# Altium integrated library Xilinx XC9500.IntLib: 208 symbols (part 4 of 16)
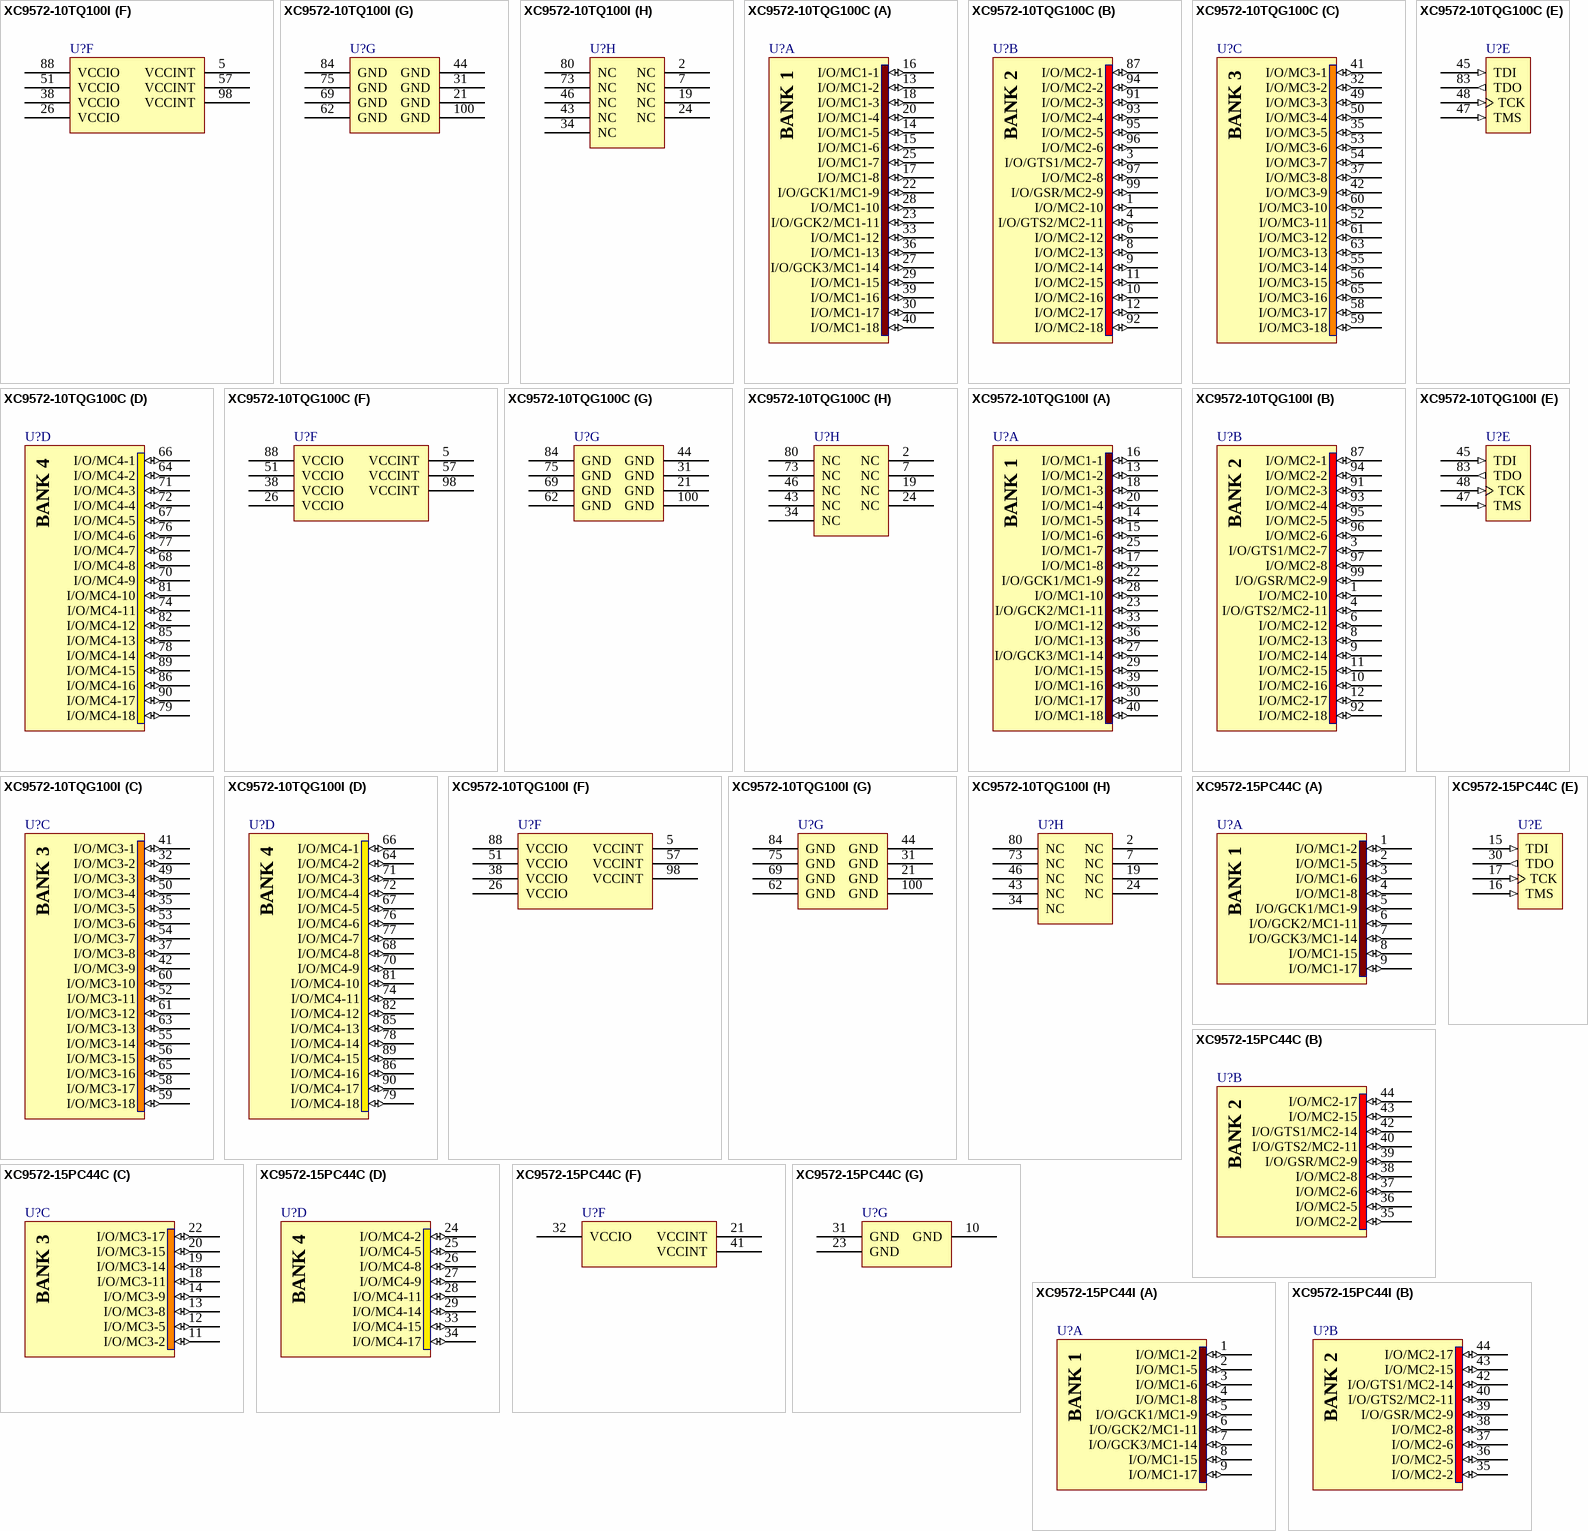
[diagram p76: symbols XC9572-10TQ100I to XC9572-15PC44I]

## XC9572-10TQ100I
designator U?
XC9500 5V, 72 Macrocell CPLD, 72 User I/Os, 100-Pin TQFP, Industrial Grade; Published: 8-Jun-2000; LatestRevisionDate: 18-Nov-2009; LatestRevisionNote: Updated to family datasheet version 5.5 Jun-2007.; DatasheetVersion: ver4.3, Apr-2006; PackageVersion: ver1.2, Jun-2004; PackageReference: TQ100; Publisher: Altium Limited; PackageDescription: 100-Pin Thin Quad Flat Pack (TQ100); Supplier 1: Digi-Key; Supplier Part Number 1: XC9572-10TQ100I-ND; Supplier 2: Newark; Supplier Part Number 2: 39M5807; ComponentLink1Description: XC9572 Datasheet; ComponentLink1URL: http://www.xilinx.com/support/documentation/data_sheets/ds065.pdf; ComponentLink2Description: TQ100 Package Drawing; ComponentLink2URL: http://www.xilinx.com/support/documentation/package_specs/tq100.pdf; ComponentLink3Description: XC9500 Documents; ComponentLink3URL: http://www.xilinx.com/support/documentation/xc9500.htm; ComponentLink4Description: Xilinx.com Home; ComponentLink4URL: http://www.xilinx.com
footprint TQ100_N (Thin QFP, 100-Leads, Body 14x14mm, Pitch 0.5mm, IPC Medium Density)
footprint TQ100_L (Thin QFP, 100-Leads, Body 14x14mm, Pitch 0.5mm, IPC High Density)
footprint TQ100_M (Thin QFP, 100-Leads, Body 14x14mm, Pitch 0.5mm, IPC Low Density)
signal-integrity model XC9572_TQ100 (XC9500)
part A pins: 13 I/O/MC1-2 (io), 14 I/O/MC1-5 (io), 15 I/O/MC1-6 (io), 16 I/O/MC1-1 (io), 17 I/O/MC1-8 (io), 18 I/O/MC1-3 (io), 20 I/O/MC1-4 (io), 22 I/O/GCK1/MC1-9 (io), 23 I/O/GCK2/MC1-11 (io), 25 I/O/MC1-7 (io), 27 I/O/GCK3/MC1-14 (io), 28 I/O/MC1-10 (io), 29 I/O/MC1-15 (io), 30 I/O/MC1-17 (io), 33 I/O/MC1-12 (io), 36 I/O/MC1-13 (io), 39 I/O/MC1-16 (io), 40 I/O/MC1-18 (io)
part B pins: 1 I/O/MC2-10 (io), 3 I/O/GTS1/MC2-7 (io), 4 I/O/GTS2/MC2-11 (io), 6 I/O/MC2-12 (io), 8 I/O/MC2-13 (io), 9 I/O/MC2-14 (io), 10 I/O/MC2-16 (io), 11 I/O/MC2-15 (io), 12 I/O/MC2-17 (io), 87 I/O/MC2-1 (io), 91 I/O/MC2-3 (io), 92 I/O/MC2-18 (io), 93 I/O/MC2-4 (io), 94 I/O/MC2-2 (io), 95 I/O/MC2-5 (io), 96 I/O/MC2-6 (io), 97 I/O/MC2-8 (io), 99 I/O/GSR/MC2-9 (io)
part C pins: 32 I/O/MC3-2 (io), 35 I/O/MC3-5 (io), 37 I/O/MC3-8 (io), 41 I/O/MC3-1 (io), 42 I/O/MC3-9 (io), 49 I/O/MC3-3 (io), 50 I/O/MC3-4 (io), 52 I/O/MC3-11 (io), 53 I/O/MC3-6 (io), 54 I/O/MC3-7 (io), 55 I/O/MC3-14 (io), 56 I/O/MC3-15 (io), 58 I/O/MC3-17 (io), 59 I/O/MC3-18 (io), 60 I/O/MC3-10 (io), 61 I/O/MC3-12 (io), 63 I/O/MC3-13 (io), 65 I/O/MC3-16 (io)
part D pins: 64 I/O/MC4-2 (io), 66 I/O/MC4-1 (io), 67 I/O/MC4-5 (io), 68 I/O/MC4-8 (io), 70 I/O/MC4-9 (io), 71 I/O/MC4-3 (io), 72 I/O/MC4-4 (io), 74 I/O/MC4-11 (io), 76 I/O/MC4-6 (io), 77 I/O/MC4-7 (io), 78 I/O/MC4-14 (io), 79 I/O/MC4-18 (io), 81 I/O/MC4-10 (io), 82 I/O/MC4-12 (io), 85 I/O/MC4-13 (io), 86 I/O/MC4-16 (io), 89 I/O/MC4-15 (io), 90 I/O/MC4-17 (io)
part E pins: 45 TDI (in), 47 TMS (in), 48 TCK (in), 83 TDO (out)
part F pins: 5 VCCINT (power), 26 VCCIO (power), 38 VCCIO (power), 51 VCCIO (power), 57 VCCINT (power), 88 VCCIO (power), 98 VCCINT (power)
part G pins: 21 GND (power), 31 GND (power), 44 GND (power), 62 GND (power), 69 GND (power), 75 GND (power), 84 GND (power), 100 GND (power)
part H pins: 2 NC, 7 NC, 19 NC, 24 NC, 34 NC, 43 NC, 46 NC, 73 NC, 80 NC
part A text: BANK 1
part B text: BANK 2
part C text: BANK 3
part D text: BANK 4

## XC9572-10TQG100C
designator U?
XC9500 5V, 72 Macrocell CPLD, 72 User I/Os, 100-Pin TQFP, Commercial Grade, Pb-Free; Published: 8-Sep-2006; LatestRevisionDate: 18-Nov-2009; LatestRevisionNote: Updated to family datasheet version 5.5 Jun-2007.; DatasheetVersion: ver4.3, Apr-2006; PackageVersion: ver1.2, Jun-2004; PackageReference: TQG100; Publisher: Altium Limited; PackageDescription: 100-Pin Thin Quad Flat Pack (TQG100) - Pb-Free; Supplier 1: Digi-Key; Supplier Part Number 1: 122-1442-ND; ComponentLink1Description: XC9572 Datasheet; ComponentLink1URL: http://www.xilinx.com/support/documentation/data_sheets/ds065.pdf; ComponentLink2Description: TQG100 Package Drawing; ComponentLink2URL: http://www.xilinx.com/support/documentation/package_specs/tq100.pdf; ComponentLink3Description: XC9500 Documents; ComponentLink3URL: http://www.xilinx.com/support/documentation/xc9500.htm; ComponentLink4Description: Xilinx.com Home; ComponentLink4URL: http://www.xilinx.com
footprint TQG100_N (Thin QFP, 100-Leads, Body 14x14mm, Pitch 0.5mm, IPC Medium Density)
footprint TQG100_L (Thin QFP, 100-Leads, Body 14x14mm, Pitch 0.5mm, IPC High Density)
footprint TQG100_M (Thin QFP, 100-Leads, Body 14x14mm, Pitch 0.5mm, IPC Low Density)
signal-integrity model XC9572_TQG100 (XC9500)
part A pins: 13 I/O/MC1-2 (io), 14 I/O/MC1-5 (io), 15 I/O/MC1-6 (io), 16 I/O/MC1-1 (io), 17 I/O/MC1-8 (io), 18 I/O/MC1-3 (io), 20 I/O/MC1-4 (io), 22 I/O/GCK1/MC1-9 (io), 23 I/O/GCK2/MC1-11 (io), 25 I/O/MC1-7 (io), 27 I/O/GCK3/MC1-14 (io), 28 I/O/MC1-10 (io), 29 I/O/MC1-15 (io), 30 I/O/MC1-17 (io), 33 I/O/MC1-12 (io), 36 I/O/MC1-13 (io), 39 I/O/MC1-16 (io), 40 I/O/MC1-18 (io)
part B pins: 1 I/O/MC2-10 (io), 3 I/O/GTS1/MC2-7 (io), 4 I/O/GTS2/MC2-11 (io), 6 I/O/MC2-12 (io), 8 I/O/MC2-13 (io), 9 I/O/MC2-14 (io), 10 I/O/MC2-16 (io), 11 I/O/MC2-15 (io), 12 I/O/MC2-17 (io), 87 I/O/MC2-1 (io), 91 I/O/MC2-3 (io), 92 I/O/MC2-18 (io), 93 I/O/MC2-4 (io), 94 I/O/MC2-2 (io), 95 I/O/MC2-5 (io), 96 I/O/MC2-6 (io), 97 I/O/MC2-8 (io), 99 I/O/GSR/MC2-9 (io)
part C pins: 32 I/O/MC3-2 (io), 35 I/O/MC3-5 (io), 37 I/O/MC3-8 (io), 41 I/O/MC3-1 (io), 42 I/O/MC3-9 (io), 49 I/O/MC3-3 (io), 50 I/O/MC3-4 (io), 52 I/O/MC3-11 (io), 53 I/O/MC3-6 (io), 54 I/O/MC3-7 (io), 55 I/O/MC3-14 (io), 56 I/O/MC3-15 (io), 58 I/O/MC3-17 (io), 59 I/O/MC3-18 (io), 60 I/O/MC3-10 (io), 61 I/O/MC3-12 (io), 63 I/O/MC3-13 (io), 65 I/O/MC3-16 (io)
part D pins: 64 I/O/MC4-2 (io), 66 I/O/MC4-1 (io), 67 I/O/MC4-5 (io), 68 I/O/MC4-8 (io), 70 I/O/MC4-9 (io), 71 I/O/MC4-3 (io), 72 I/O/MC4-4 (io), 74 I/O/MC4-11 (io), 76 I/O/MC4-6 (io), 77 I/O/MC4-7 (io), 78 I/O/MC4-14 (io), 79 I/O/MC4-18 (io), 81 I/O/MC4-10 (io), 82 I/O/MC4-12 (io), 85 I/O/MC4-13 (io), 86 I/O/MC4-16 (io), 89 I/O/MC4-15 (io), 90 I/O/MC4-17 (io)
part E pins: 45 TDI (in), 47 TMS (in), 48 TCK (in), 83 TDO (out)
part F pins: 5 VCCINT (power), 26 VCCIO (power), 38 VCCIO (power), 51 VCCIO (power), 57 VCCINT (power), 88 VCCIO (power), 98 VCCINT (power)
part G pins: 21 GND (power), 31 GND (power), 44 GND (power), 62 GND (power), 69 GND (power), 75 GND (power), 84 GND (power), 100 GND (power)
part H pins: 2 NC, 7 NC, 19 NC, 24 NC, 34 NC, 43 NC, 46 NC, 73 NC, 80 NC
part A text: BANK 1
part B text: BANK 2
part C text: BANK 3
part D text: BANK 4

## XC9572-10TQG100I
designator U?
XC9500 5V, 72 Macrocell CPLD, 72 User I/Os, 100-Pin TQFP, Industrial Grade, Pb-Free; Published: 8-Sep-2006; LatestRevisionDate: 18-Nov-2009; LatestRevisionNote: Updated to family datasheet version 5.5 Jun-2007.; DatasheetVersion: ver4.3, Apr-2006; PackageVersion: ver1.2, Jun-2004; PackageReference: TQG100; Publisher: Altium Limited; PackageDescription: 100-Pin Thin Quad Flat Pack (TQG100) - Pb-Free; ComponentLink1Description: XC9572 Datasheet; ComponentLink1URL: http://www.xilinx.com/support/documentation/data_sheets/ds065.pdf; ComponentLink2Description: TQG100 Package Drawing; ComponentLink2URL: http://www.xilinx.com/support/documentation/package_specs/tq100.pdf; ComponentLink3Description: XC9500 Documents; ComponentLink3URL: http://www.xilinx.com/support/documentation/xc9500.htm; ComponentLink4Description: Xilinx.com Home; ComponentLink4URL: http://www.xilinx.com
footprint TQG100_N (Thin QFP, 100-Leads, Body 14x14mm, Pitch 0.5mm, IPC Medium Density)
footprint TQG100_L (Thin QFP, 100-Leads, Body 14x14mm, Pitch 0.5mm, IPC High Density)
footprint TQG100_M (Thin QFP, 100-Leads, Body 14x14mm, Pitch 0.5mm, IPC Low Density)
signal-integrity model XC9572_TQG100 (XC9500)
part A pins: 13 I/O/MC1-2 (io), 14 I/O/MC1-5 (io), 15 I/O/MC1-6 (io), 16 I/O/MC1-1 (io), 17 I/O/MC1-8 (io), 18 I/O/MC1-3 (io), 20 I/O/MC1-4 (io), 22 I/O/GCK1/MC1-9 (io), 23 I/O/GCK2/MC1-11 (io), 25 I/O/MC1-7 (io), 27 I/O/GCK3/MC1-14 (io), 28 I/O/MC1-10 (io), 29 I/O/MC1-15 (io), 30 I/O/MC1-17 (io), 33 I/O/MC1-12 (io), 36 I/O/MC1-13 (io), 39 I/O/MC1-16 (io), 40 I/O/MC1-18 (io)
part B pins: 1 I/O/MC2-10 (io), 3 I/O/GTS1/MC2-7 (io), 4 I/O/GTS2/MC2-11 (io), 6 I/O/MC2-12 (io), 8 I/O/MC2-13 (io), 9 I/O/MC2-14 (io), 10 I/O/MC2-16 (io), 11 I/O/MC2-15 (io), 12 I/O/MC2-17 (io), 87 I/O/MC2-1 (io), 91 I/O/MC2-3 (io), 92 I/O/MC2-18 (io), 93 I/O/MC2-4 (io), 94 I/O/MC2-2 (io), 95 I/O/MC2-5 (io), 96 I/O/MC2-6 (io), 97 I/O/MC2-8 (io), 99 I/O/GSR/MC2-9 (io)
part C pins: 32 I/O/MC3-2 (io), 35 I/O/MC3-5 (io), 37 I/O/MC3-8 (io), 41 I/O/MC3-1 (io), 42 I/O/MC3-9 (io), 49 I/O/MC3-3 (io), 50 I/O/MC3-4 (io), 52 I/O/MC3-11 (io), 53 I/O/MC3-6 (io), 54 I/O/MC3-7 (io), 55 I/O/MC3-14 (io), 56 I/O/MC3-15 (io), 58 I/O/MC3-17 (io), 59 I/O/MC3-18 (io), 60 I/O/MC3-10 (io), 61 I/O/MC3-12 (io), 63 I/O/MC3-13 (io), 65 I/O/MC3-16 (io)
part D pins: 64 I/O/MC4-2 (io), 66 I/O/MC4-1 (io), 67 I/O/MC4-5 (io), 68 I/O/MC4-8 (io), 70 I/O/MC4-9 (io), 71 I/O/MC4-3 (io), 72 I/O/MC4-4 (io), 74 I/O/MC4-11 (io), 76 I/O/MC4-6 (io), 77 I/O/MC4-7 (io), 78 I/O/MC4-14 (io), 79 I/O/MC4-18 (io), 81 I/O/MC4-10 (io), 82 I/O/MC4-12 (io), 85 I/O/MC4-13 (io), 86 I/O/MC4-16 (io), 89 I/O/MC4-15 (io), 90 I/O/MC4-17 (io)
part E pins: 45 TDI (in), 47 TMS (in), 48 TCK (in), 83 TDO (out)
part F pins: 5 VCCINT (power), 26 VCCIO (power), 38 VCCIO (power), 51 VCCIO (power), 57 VCCINT (power), 88 VCCIO (power), 98 VCCINT (power)
part G pins: 21 GND (power), 31 GND (power), 44 GND (power), 62 GND (power), 69 GND (power), 75 GND (power), 84 GND (power), 100 GND (power)
part H pins: 2 NC, 7 NC, 19 NC, 24 NC, 34 NC, 43 NC, 46 NC, 73 NC, 80 NC
part A text: BANK 1
part B text: BANK 2
part C text: BANK 3
part D text: BANK 4

## XC9572-15PC44C
designator U?
XC9500 5V, 72 Macrocell CPLD, 34 User I/Os, 44-Pin PLCC, Commercial Grade; Published: 8-Jun-2000; LatestRevisionDate: 18-Nov-2009; LatestRevisionNote: Updated to family datasheet version 5.5 Jun-2007.; DatasheetVersion: ver4.3, Apr-2006; PackageVersion: ver1.2, Jun-2004; PackageReference: PC44; Publisher: Altium Limited; PackageDescription: 44-Pin Plastic Leaded Chip Carrier (PC44); Supplier 1: Digi-Key; Supplier Part Number 1: 122-1171-ND; Code_JEDEC: MS-047; Code_IPC: PLCC-44; ComponentLink1Description: XC9572 Datasheet; ComponentLink1URL: http://www.xilinx.com/support/documentation/data_sheets/ds065.pdf; ComponentLink2Description: PC44 Package Drawing; ComponentLink2URL: http://www.xilinx.com/support/documentation/package_specs/pc44.pdf; ComponentLink3Description: XC9500 Documents; ComponentLink3URL: http://www.xilinx.com/support/documentation/xc9500.htm; ComponentLink4Description: Xilinx.com Home; ComponentLink4URL: http://www.xilinx.com
footprint PC44_N (Leaded Chip Carrier, 44-Leads, Body 16.6x16.6mm, Pitch 1.27mm, IPC Medium Density)
footprint PC44_L (Leaded Chip Carrier, 44-Leads, Body 16.6x16.6mm, Pitch 1.27mm, IPC High Density)
footprint PC44_M (Leaded Chip Carrier, 44-Leads, Body 16.6x16.6mm, Pitch 1.27mm, IPC Low Density)
signal-integrity model XC9572_PLCC44 (XC9500)
part A pins: 1 I/O/MC1-2 (io), 2 I/O/MC1-5 (io), 3 I/O/MC1-6 (io), 4 I/O/MC1-8 (io), 5 I/O/GCK1/MC1-9 (io), 6 I/O/GCK2/MC1-11 (io), 7 I/O/GCK3/MC1-14 (io), 8 I/O/MC1-15 (io), 9 I/O/MC1-17 (io)
part B pins: 35 I/O/MC2-2 (io), 36 I/O/MC2-5 (io), 37 I/O/MC2-6 (io), 38 I/O/MC2-8 (io), 39 I/O/GSR/MC2-9 (io), 40 I/O/GTS2/MC2-11 (io), 42 I/O/GTS1/MC2-14 (io), 43 I/O/MC2-15 (io), 44 I/O/MC2-17 (io)
part C pins: 11 I/O/MC3-2 (io), 12 I/O/MC3-5 (io), 13 I/O/MC3-8 (io), 14 I/O/MC3-9 (io), 18 I/O/MC3-11 (io), 19 I/O/MC3-14 (io), 20 I/O/MC3-15 (io), 22 I/O/MC3-17 (io)
part D pins: 24 I/O/MC4-2 (io), 25 I/O/MC4-5 (io), 26 I/O/MC4-8 (io), 27 I/O/MC4-9 (io), 28 I/O/MC4-11 (io), 29 I/O/MC4-14 (io), 33 I/O/MC4-15 (io), 34 I/O/MC4-17 (io)
part E pins: 15 TDI (in), 16 TMS (in), 17 TCK (in), 30 TDO (out)
part F pins: 21 VCCINT (power), 32 VCCIO (power), 41 VCCINT (power)
part G pins: 10 GND (power), 23 GND (power), 31 GND (power)
part A text: BANK 1
part B text: BANK 2
part C text: BANK 3
part D text: BANK 4

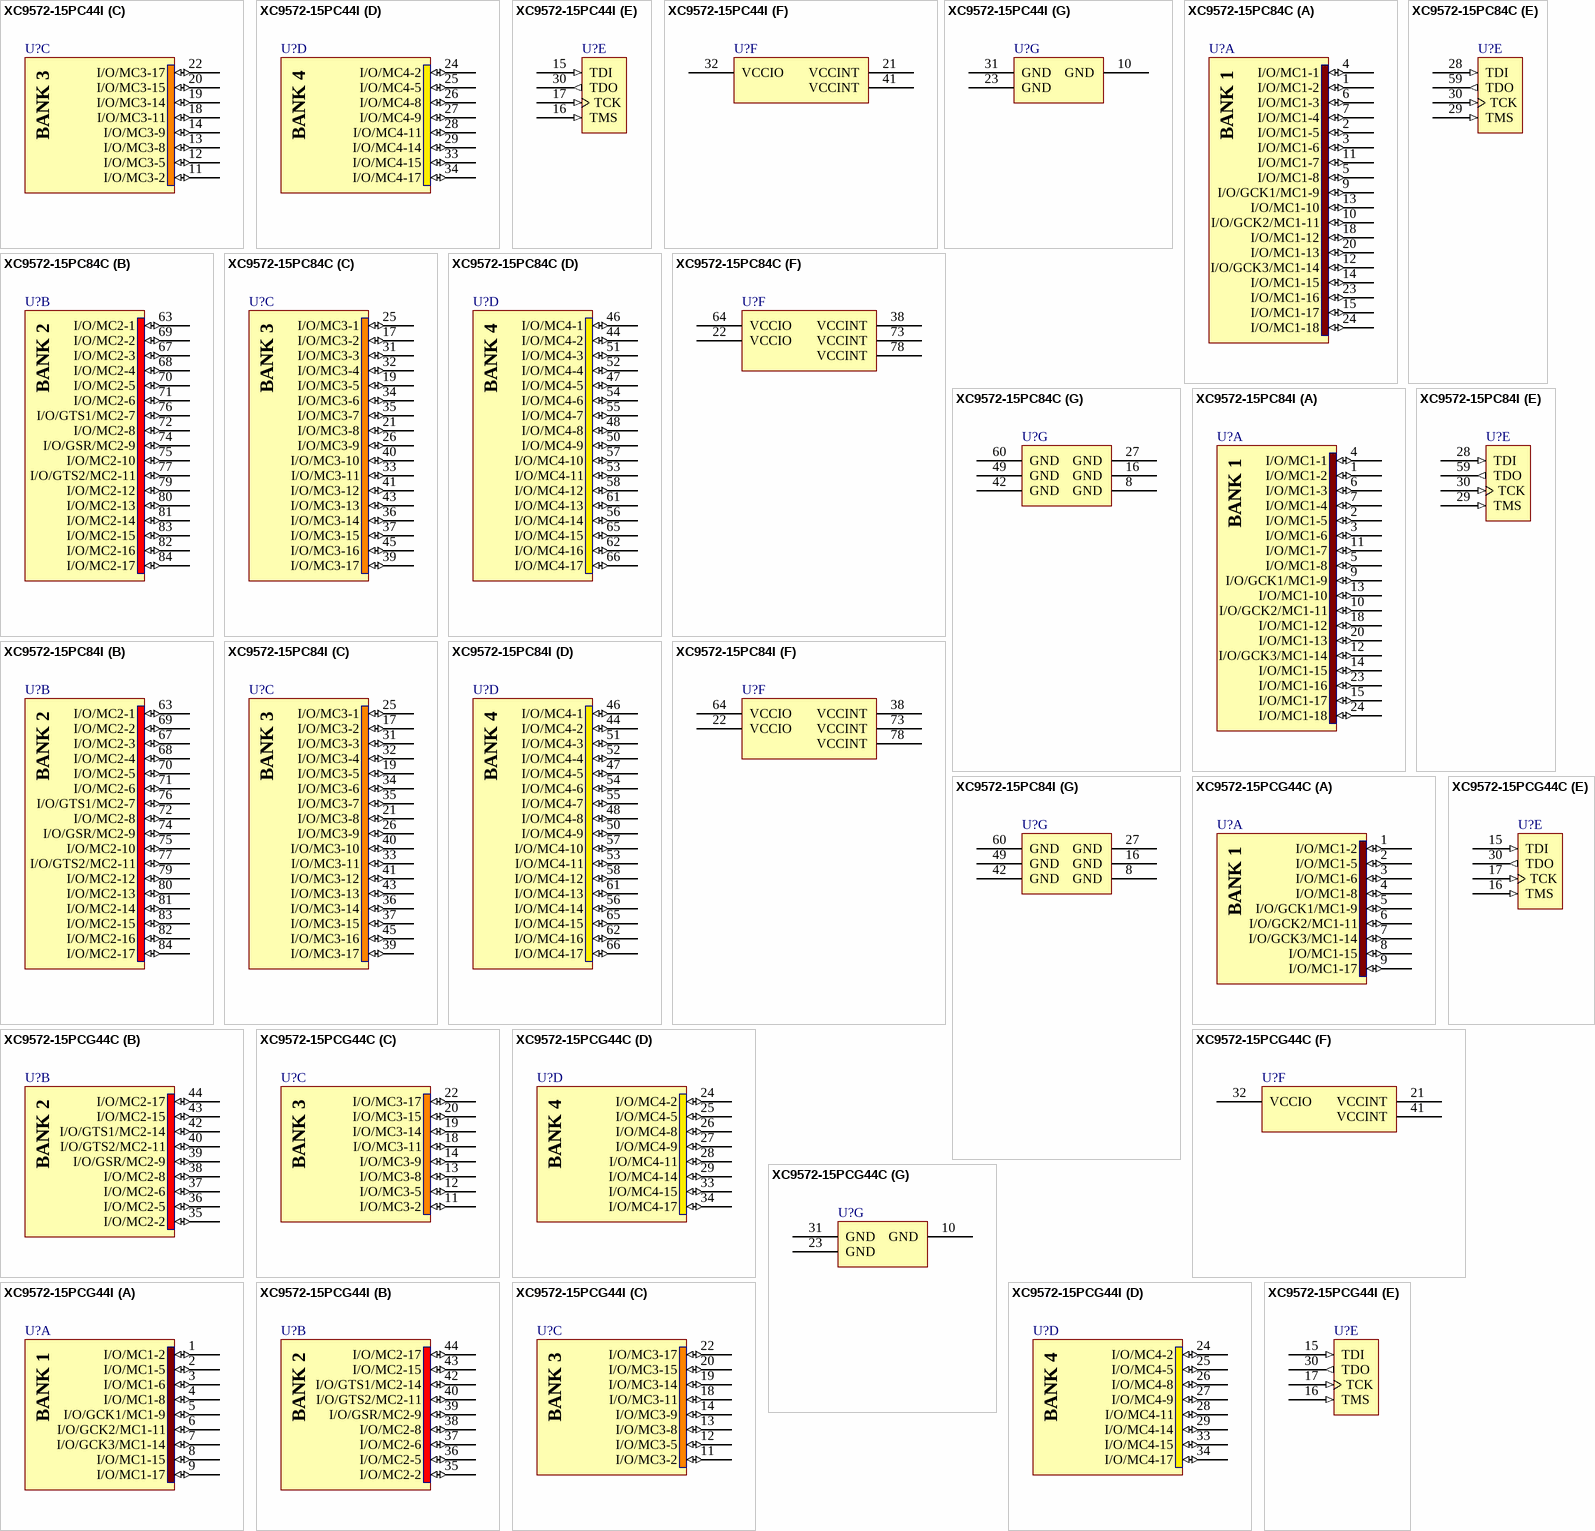
[diagram p15: symbols XC9572-15PC44I to XC9572-15PCG44I]

## XC9572-15PC44I
designator U?
XC9500 5V, 72 Macrocell CPLD, 34 User I/Os, 44-Pin PLCC, Industrial Grade; Published: 8-Jun-2000; LatestRevisionDate: 18-Nov-2009; LatestRevisionNote: Updated to family datasheet version 5.5 Jun-2007.; DatasheetVersion: ver4.3, Apr-2006; PackageVersion: ver1.2, Jun-2004; PackageReference: PC44; Publisher: Altium Limited; PackageDescription: 44-Pin Plastic Leaded Chip Carrier (PC44); Supplier 1: Digi-Key; Supplier Part Number 1: XC9572-15PC44I-ND; Code_JEDEC: MS-047; Code_IPC: PLCC-44; ComponentLink1Description: XC9572 Datasheet; ComponentLink1URL: http://www.xilinx.com/support/documentation/data_sheets/ds065.pdf; ComponentLink2Description: PC44 Package Drawing; ComponentLink2URL: http://www.xilinx.com/support/documentation/package_specs/pc44.pdf; ComponentLink3Description: XC9500 Documents; ComponentLink3URL: http://www.xilinx.com/support/documentation/xc9500.htm; ComponentLink4Description: Xilinx.com Home; ComponentLink4URL: http://www.xilinx.com
footprint PC44_N (Leaded Chip Carrier, 44-Leads, Body 16.6x16.6mm, Pitch 1.27mm, IPC Medium Density)
footprint PC44_L (Leaded Chip Carrier, 44-Leads, Body 16.6x16.6mm, Pitch 1.27mm, IPC High Density)
footprint PC44_M (Leaded Chip Carrier, 44-Leads, Body 16.6x16.6mm, Pitch 1.27mm, IPC Low Density)
signal-integrity model XC9572_PLCC44 (XC9500)
part A pins: 1 I/O/MC1-2 (io), 2 I/O/MC1-5 (io), 3 I/O/MC1-6 (io), 4 I/O/MC1-8 (io), 5 I/O/GCK1/MC1-9 (io), 6 I/O/GCK2/MC1-11 (io), 7 I/O/GCK3/MC1-14 (io), 8 I/O/MC1-15 (io), 9 I/O/MC1-17 (io)
part B pins: 35 I/O/MC2-2 (io), 36 I/O/MC2-5 (io), 37 I/O/MC2-6 (io), 38 I/O/MC2-8 (io), 39 I/O/GSR/MC2-9 (io), 40 I/O/GTS2/MC2-11 (io), 42 I/O/GTS1/MC2-14 (io), 43 I/O/MC2-15 (io), 44 I/O/MC2-17 (io)
part C pins: 11 I/O/MC3-2 (io), 12 I/O/MC3-5 (io), 13 I/O/MC3-8 (io), 14 I/O/MC3-9 (io), 18 I/O/MC3-11 (io), 19 I/O/MC3-14 (io), 20 I/O/MC3-15 (io), 22 I/O/MC3-17 (io)
part D pins: 24 I/O/MC4-2 (io), 25 I/O/MC4-5 (io), 26 I/O/MC4-8 (io), 27 I/O/MC4-9 (io), 28 I/O/MC4-11 (io), 29 I/O/MC4-14 (io), 33 I/O/MC4-15 (io), 34 I/O/MC4-17 (io)
part E pins: 15 TDI (in), 16 TMS (in), 17 TCK (in), 30 TDO (out)
part F pins: 21 VCCINT (power), 32 VCCIO (power), 41 VCCINT (power)
part G pins: 10 GND (power), 23 GND (power), 31 GND (power)
part A text: BANK 1
part B text: BANK 2
part C text: BANK 3
part D text: BANK 4

## XC9572-15PC84C
designator U?
XC9500 5V, 72 Macrocell CPLD, 69 User I/Os, 84-Pin PLCC, Commercial Grade; Published: 8-Jun-2000; LatestRevisionDate: 18-Nov-2009; LatestRevisionNote: Updated to family datasheet version 5.5 Jun-2007.; DatasheetVersion: ver4.3, Apr-2006; PackageVersion: ver1.2, Jun-2004; PackageReference: PC84; Publisher: Altium Limited; PackageDescription: 84-Pin Plastic Leaded Chip Carrier (PC84); Supplier 1: Digi-Key; Supplier Part Number 1: 122-1172-ND; Code_JEDEC: MS-047; Code_IPC: PLCC-84; ComponentLink1Description: XC9572 Datasheet; ComponentLink1URL: http://www.xilinx.com/support/documentation/data_sheets/ds065.pdf; ComponentLink2Description: PC84 Package Drawing; ComponentLink2URL: http://www.xilinx.com/support/documentation/package_specs/pc84.pdf; ComponentLink3Description: XC9500 Documents; ComponentLink3URL: http://www.xilinx.com/support/documentation/xc9500.htm; ComponentLink4Description: Xilinx.com Home; ComponentLink4URL: http://www.xilinx.com
footprint PC84_N (Leaded Chip Carrier, 84-Leads, Body 29.3x29.3mm, Pitch 1.27mm, IPC Medium Density)
footprint PC84_L (Leaded Chip Carrier, 84-Leads, Body 29.3x29.3mm, Pitch 1.27mm, IPC High Density)
footprint PC84_M (Leaded Chip Carrier, 84-Leads, Body 29.3x29.3mm, Pitch 1.27mm, IPC Low Density)
signal-integrity model XC9572_PLCC84 (XC9500)
part A pins: 1 I/O/MC1-2 (io), 2 I/O/MC1-5 (io), 3 I/O/MC1-6 (io), 4 I/O/MC1-1 (io), 5 I/O/MC1-8 (io), 6 I/O/MC1-3 (io), 7 I/O/MC1-4 (io), 9 I/O/GCK1/MC1-9 (io), 10 I/O/GCK2/MC1-11 (io), 11 I/O/MC1-7 (io), 12 I/O/GCK3/MC1-14 (io), 13 I/O/MC1-10 (io), 14 I/O/MC1-15 (io), 15 I/O/MC1-17 (io), 18 I/O/MC1-12 (io), 20 I/O/MC1-13 (io), 23 I/O/MC1-16 (io), 24 I/O/MC1-18 (io)
part B pins: 63 I/O/MC2-1 (io), 67 I/O/MC2-3 (io), 68 I/O/MC2-4 (io), 69 I/O/MC2-2 (io), 70 I/O/MC2-5 (io), 71 I/O/MC2-6 (io), 72 I/O/MC2-8 (io), 74 I/O/GSR/MC2-9 (io), 75 I/O/MC2-10 (io), 76 I/O/GTS1/MC2-7 (io), 77 I/O/GTS2/MC2-11 (io), 79 I/O/MC2-12 (io), 80 I/O/MC2-13 (io), 81 I/O/MC2-14 (io), 82 I/O/MC2-16 (io), 83 I/O/MC2-15 (io), 84 I/O/MC2-17 (io)
part C pins: 17 I/O/MC3-2 (io), 19 I/O/MC3-5 (io), 21 I/O/MC3-8 (io), 25 I/O/MC3-1 (io), 26 I/O/MC3-9 (io), 31 I/O/MC3-3 (io), 32 I/O/MC3-4 (io), 33 I/O/MC3-11 (io), 34 I/O/MC3-6 (io), 35 I/O/MC3-7 (io), 36 I/O/MC3-14 (io), 37 I/O/MC3-15 (io), 39 I/O/MC3-17 (io), 40 I/O/MC3-10 (io), 41 I/O/MC3-12 (io), 43 I/O/MC3-13 (io), 45 I/O/MC3-16 (io)
part D pins: 44 I/O/MC4-2 (io), 46 I/O/MC4-1 (io), 47 I/O/MC4-5 (io), 48 I/O/MC4-8 (io), 50 I/O/MC4-9 (io), 51 I/O/MC4-3 (io), 52 I/O/MC4-4 (io), 53 I/O/MC4-11 (io), 54 I/O/MC4-6 (io), 55 I/O/MC4-7 (io), 56 I/O/MC4-14 (io), 57 I/O/MC4-10 (io), 58 I/O/MC4-12 (io), 61 I/O/MC4-13 (io), 62 I/O/MC4-16 (io), 65 I/O/MC4-15 (io), 66 I/O/MC4-17 (io)
part E pins: 28 TDI (in), 29 TMS (in), 30 TCK (in), 59 TDO (out)
part F pins: 22 VCCIO (power), 38 VCCINT (power), 64 VCCIO (power), 73 VCCINT (power), 78 VCCINT (power)
part G pins: 8 GND (power), 16 GND (power), 27 GND (power), 42 GND (power), 49 GND (power), 60 GND (power)
part A text: BANK 1
part B text: BANK 2
part C text: BANK 3
part D text: BANK 4

## XC9572-15PC84I
designator U?
XC9500 5V, 72 Macrocell CPLD, 69 User I/Os, 84-Pin PLCC, Industrial Grade; Published: 8-Jun-2000; LatestRevisionDate: 18-Nov-2009; LatestRevisionNote: Updated to family datasheet version 5.5 Jun-2007.; DatasheetVersion: ver4.3, Apr-2006; PackageVersion: ver1.2, Jun-2004; PackageReference: PC84; Publisher: Altium Limited; PackageDescription: 84-Pin Plastic Leaded Chip Carrier (PC84); Supplier 1: Digi-Key; Supplier Part Number 1: XC9572-15PC84I-ND; Code_JEDEC: MS-047; Code_IPC: PLCC-84; ComponentLink1Description: XC9572 Datasheet; ComponentLink1URL: http://www.xilinx.com/support/documentation/data_sheets/ds065.pdf; ComponentLink2Description: PC84 Package Drawing; ComponentLink2URL: http://www.xilinx.com/support/documentation/package_specs/pc84.pdf; ComponentLink3Description: XC9500 Documents; ComponentLink3URL: http://www.xilinx.com/support/documentation/xc9500.htm; ComponentLink4Description: Xilinx.com Home; ComponentLink4URL: http://www.xilinx.com
footprint PC84_N (Leaded Chip Carrier, 84-Leads, Body 29.3x29.3mm, Pitch 1.27mm, IPC Medium Density)
footprint PC84_L (Leaded Chip Carrier, 84-Leads, Body 29.3x29.3mm, Pitch 1.27mm, IPC High Density)
footprint PC84_M (Leaded Chip Carrier, 84-Leads, Body 29.3x29.3mm, Pitch 1.27mm, IPC Low Density)
signal-integrity model XC9572_PLCC84 (XC9500)
part A pins: 1 I/O/MC1-2 (io), 2 I/O/MC1-5 (io), 3 I/O/MC1-6 (io), 4 I/O/MC1-1 (io), 5 I/O/MC1-8 (io), 6 I/O/MC1-3 (io), 7 I/O/MC1-4 (io), 9 I/O/GCK1/MC1-9 (io), 10 I/O/GCK2/MC1-11 (io), 11 I/O/MC1-7 (io), 12 I/O/GCK3/MC1-14 (io), 13 I/O/MC1-10 (io), 14 I/O/MC1-15 (io), 15 I/O/MC1-17 (io), 18 I/O/MC1-12 (io), 20 I/O/MC1-13 (io), 23 I/O/MC1-16 (io), 24 I/O/MC1-18 (io)
part B pins: 63 I/O/MC2-1 (io), 67 I/O/MC2-3 (io), 68 I/O/MC2-4 (io), 69 I/O/MC2-2 (io), 70 I/O/MC2-5 (io), 71 I/O/MC2-6 (io), 72 I/O/MC2-8 (io), 74 I/O/GSR/MC2-9 (io), 75 I/O/MC2-10 (io), 76 I/O/GTS1/MC2-7 (io), 77 I/O/GTS2/MC2-11 (io), 79 I/O/MC2-12 (io), 80 I/O/MC2-13 (io), 81 I/O/MC2-14 (io), 82 I/O/MC2-16 (io), 83 I/O/MC2-15 (io), 84 I/O/MC2-17 (io)
part C pins: 17 I/O/MC3-2 (io), 19 I/O/MC3-5 (io), 21 I/O/MC3-8 (io), 25 I/O/MC3-1 (io), 26 I/O/MC3-9 (io), 31 I/O/MC3-3 (io), 32 I/O/MC3-4 (io), 33 I/O/MC3-11 (io), 34 I/O/MC3-6 (io), 35 I/O/MC3-7 (io), 36 I/O/MC3-14 (io), 37 I/O/MC3-15 (io), 39 I/O/MC3-17 (io), 40 I/O/MC3-10 (io), 41 I/O/MC3-12 (io), 43 I/O/MC3-13 (io), 45 I/O/MC3-16 (io)
part D pins: 44 I/O/MC4-2 (io), 46 I/O/MC4-1 (io), 47 I/O/MC4-5 (io), 48 I/O/MC4-8 (io), 50 I/O/MC4-9 (io), 51 I/O/MC4-3 (io), 52 I/O/MC4-4 (io), 53 I/O/MC4-11 (io), 54 I/O/MC4-6 (io), 55 I/O/MC4-7 (io), 56 I/O/MC4-14 (io), 57 I/O/MC4-10 (io), 58 I/O/MC4-12 (io), 61 I/O/MC4-13 (io), 62 I/O/MC4-16 (io), 65 I/O/MC4-15 (io), 66 I/O/MC4-17 (io)
part E pins: 28 TDI (in), 29 TMS (in), 30 TCK (in), 59 TDO (out)
part F pins: 22 VCCIO (power), 38 VCCINT (power), 64 VCCIO (power), 73 VCCINT (power), 78 VCCINT (power)
part G pins: 8 GND (power), 16 GND (power), 27 GND (power), 42 GND (power), 49 GND (power), 60 GND (power)
part A text: BANK 1
part B text: BANK 2
part C text: BANK 3
part D text: BANK 4

## XC9572-15PCG44C
designator U?
XC9500 5V, 72 Macrocell CPLD, 34 User I/Os, 44-Pin PLCC, Commercial Grade, Pb-Free; Published: 8-Sep-2006; LatestRevisionDate: 18-Nov-2009; LatestRevisionNote: Updated to family datasheet version 5.5 Jun-2007.; DatasheetVersion: ver4.3, Apr-2006; PackageVersion: ver1.2, Jun-2004; PackageReference: PCG44; Publisher: Altium Limited; PackageDescription: 44-Pin Plastic Leaded Chip Carrier (PCG44) - Pb-Free; Supplier 1: Digi-Key; Supplier Part Number 1: 122-1443-ND; Supplier 2: Farnell; Supplier Part Number 2: 1193230; Supplier 3: Newark; Supplier Part Number 3: 98K3380; Code_JEDEC: MS-047; Code_IPC: PLCC-44; ComponentLink1Description: XC9572 Datasheet; ComponentLink1URL: http://www.xilinx.com/support/documentation/data_sheets/ds065.pdf; ComponentLink2Description: PCG44 Package Drawing; ComponentLink2URL: http://www.xilinx.com/support/documentation/package_specs/pc44.pdf; ComponentLink3Description: XC9500 Documents; ComponentLink3URL: http://www.xilinx.com/support/documentation/xc9500.htm; ComponentLink4Description: Xilinx.com Home; ComponentLink4URL: http://www.xilinx.com
footprint PCG44_N (Leaded Chip Carrier, 44-Leads, Body 16.6x16.6mm, Pitch 1.27mm, IPC Medium Density)
footprint PCG44_L (Leaded Chip Carrier, 44-Leads, Body 16.6x16.6mm, Pitch 1.27mm, IPC High Density)
footprint PCG44_M (Leaded Chip Carrier, 44-Leads, Body 16.6x16.6mm, Pitch 1.27mm, IPC Low Density)
signal-integrity model XC9572_PCG44 (XC9500)
part A pins: 1 I/O/MC1-2 (io), 2 I/O/MC1-5 (io), 3 I/O/MC1-6 (io), 4 I/O/MC1-8 (io), 5 I/O/GCK1/MC1-9 (io), 6 I/O/GCK2/MC1-11 (io), 7 I/O/GCK3/MC1-14 (io), 8 I/O/MC1-15 (io), 9 I/O/MC1-17 (io)
part B pins: 35 I/O/MC2-2 (io), 36 I/O/MC2-5 (io), 37 I/O/MC2-6 (io), 38 I/O/MC2-8 (io), 39 I/O/GSR/MC2-9 (io), 40 I/O/GTS2/MC2-11 (io), 42 I/O/GTS1/MC2-14 (io), 43 I/O/MC2-15 (io), 44 I/O/MC2-17 (io)
part C pins: 11 I/O/MC3-2 (io), 12 I/O/MC3-5 (io), 13 I/O/MC3-8 (io), 14 I/O/MC3-9 (io), 18 I/O/MC3-11 (io), 19 I/O/MC3-14 (io), 20 I/O/MC3-15 (io), 22 I/O/MC3-17 (io)
part D pins: 24 I/O/MC4-2 (io), 25 I/O/MC4-5 (io), 26 I/O/MC4-8 (io), 27 I/O/MC4-9 (io), 28 I/O/MC4-11 (io), 29 I/O/MC4-14 (io), 33 I/O/MC4-15 (io), 34 I/O/MC4-17 (io)
part E pins: 15 TDI (in), 16 TMS (in), 17 TCK (in), 30 TDO (out)
part F pins: 21 VCCINT (power), 32 VCCIO (power), 41 VCCINT (power)
part G pins: 10 GND (power), 23 GND (power), 31 GND (power)
part A text: BANK 1
part B text: BANK 2
part C text: BANK 3
part D text: BANK 4

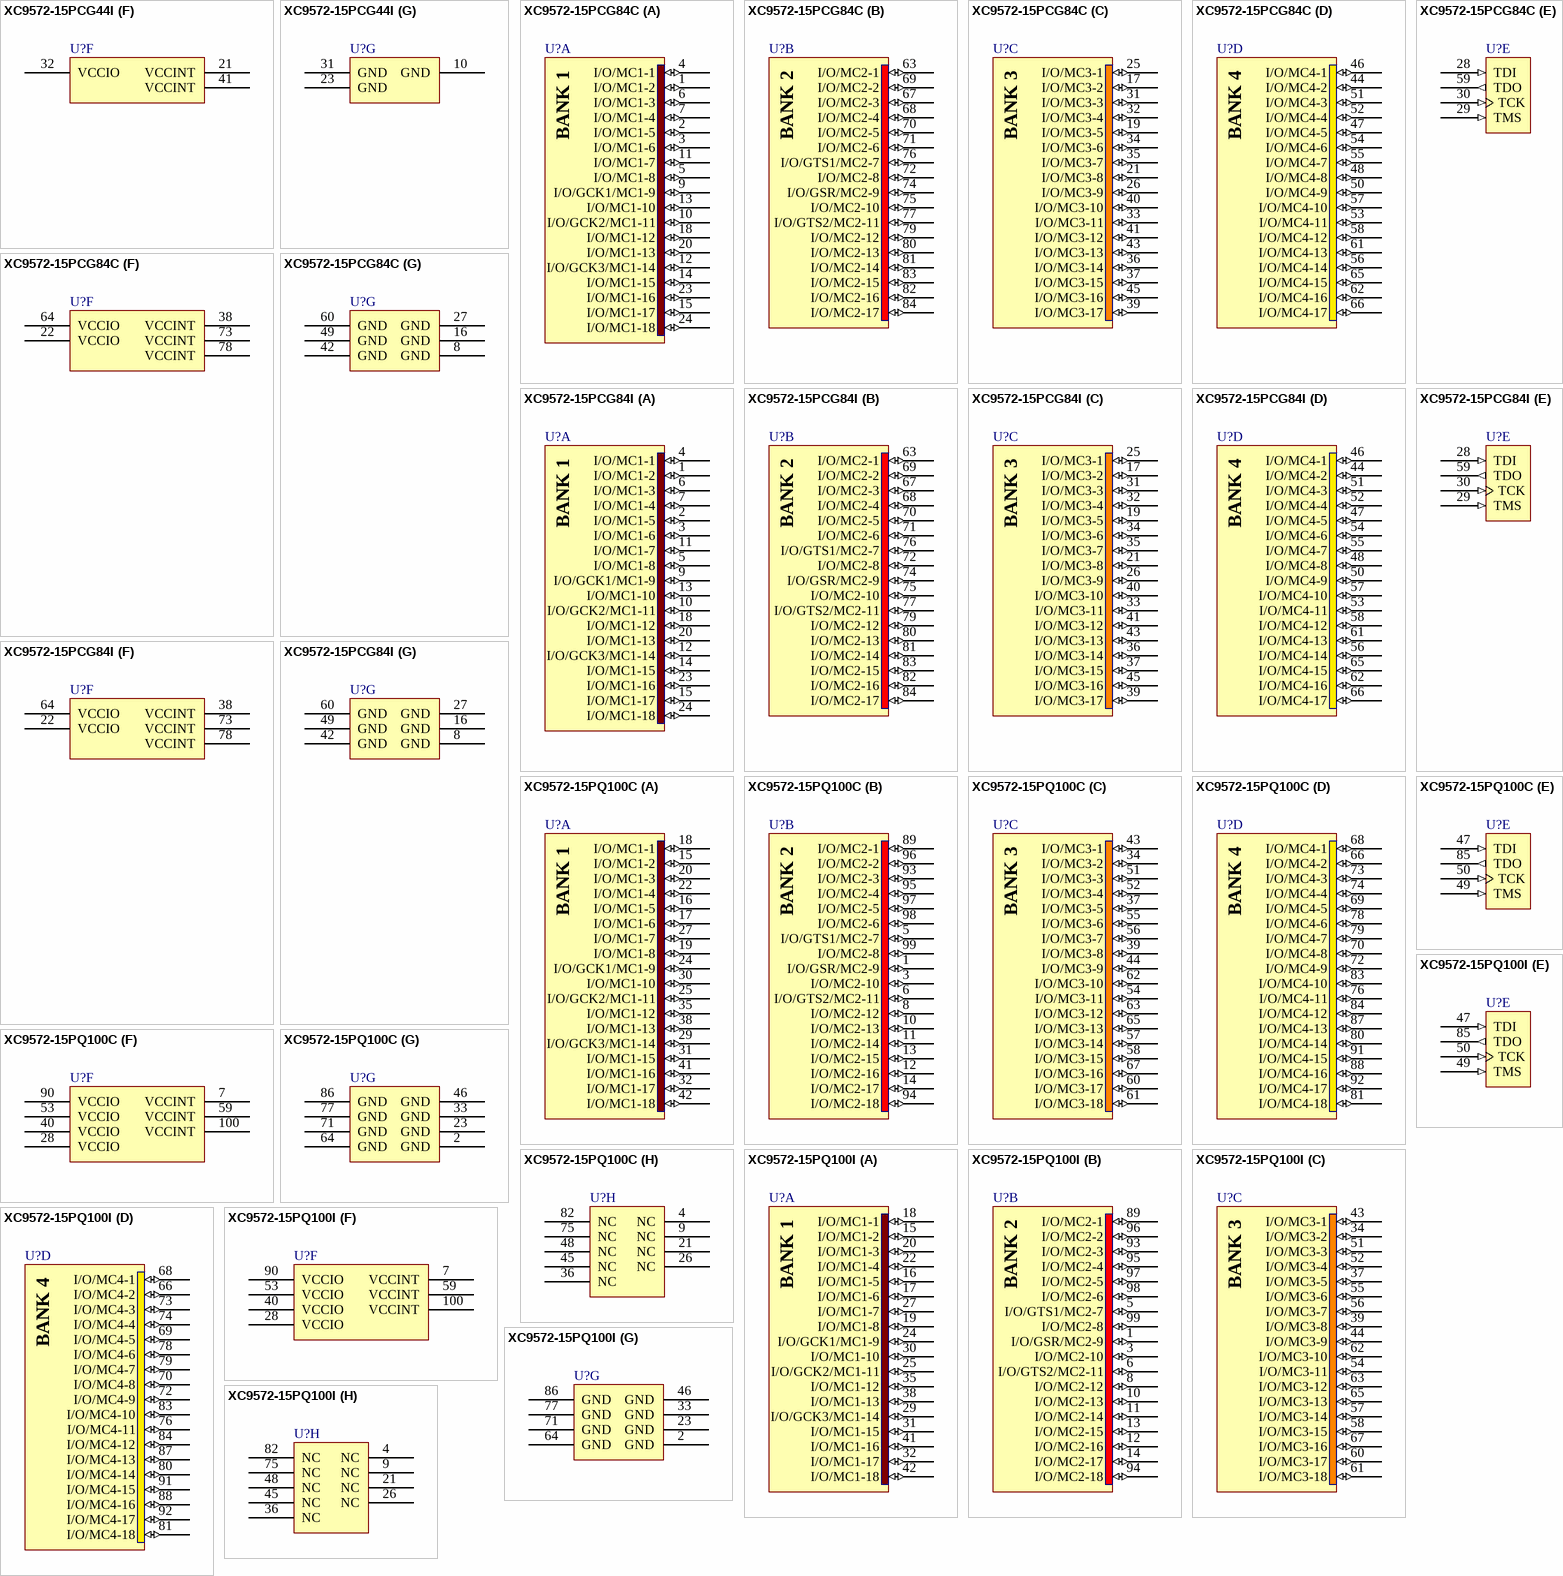
[diagram p16: symbols XC9572-15PCG44I to XC9572-15PQ100I]

## XC9572-15PCG44I
designator U?
XC9500 5V, 72 Macrocell CPLD, 34 User I/Os, 44-Pin PLCC, Industrial Grade, Pb-Free; Published: 8-Sep-2006; LatestRevisionDate: 18-Nov-2009; LatestRevisionNote: Updated to family datasheet version 5.5 Jun-2007.; DatasheetVersion: ver4.3, Apr-2006; PackageVersion: ver1.2, Jun-2004; PackageReference: PCG44; Publisher: Altium Limited; PackageDescription: 44-Pin Plastic Leaded Chip Carrier (PCG44) - Pb-Free; Code_JEDEC: MS-047; Code_IPC: PLCC-44; ComponentLink1Description: XC9572 Datasheet; ComponentLink1URL: http://www.xilinx.com/support/documentation/data_sheets/ds065.pdf; ComponentLink2Description: PCG44 Package Drawing; ComponentLink2URL: http://www.xilinx.com/support/documentation/package_specs/pc44.pdf; ComponentLink3Description: XC9500 Documents; ComponentLink3URL: http://www.xilinx.com/support/documentation/xc9500.htm; ComponentLink4Description: Xilinx.com Home; ComponentLink4URL: http://www.xilinx.com
footprint PCG44_N (Leaded Chip Carrier, 44-Leads, Body 16.6x16.6mm, Pitch 1.27mm, IPC Medium Density)
footprint PCG44_L (Leaded Chip Carrier, 44-Leads, Body 16.6x16.6mm, Pitch 1.27mm, IPC High Density)
footprint PCG44_M (Leaded Chip Carrier, 44-Leads, Body 16.6x16.6mm, Pitch 1.27mm, IPC Low Density)
signal-integrity model XC9572_PCG44 (XC9500)
part A pins: 1 I/O/MC1-2 (io), 2 I/O/MC1-5 (io), 3 I/O/MC1-6 (io), 4 I/O/MC1-8 (io), 5 I/O/GCK1/MC1-9 (io), 6 I/O/GCK2/MC1-11 (io), 7 I/O/GCK3/MC1-14 (io), 8 I/O/MC1-15 (io), 9 I/O/MC1-17 (io)
part B pins: 35 I/O/MC2-2 (io), 36 I/O/MC2-5 (io), 37 I/O/MC2-6 (io), 38 I/O/MC2-8 (io), 39 I/O/GSR/MC2-9 (io), 40 I/O/GTS2/MC2-11 (io), 42 I/O/GTS1/MC2-14 (io), 43 I/O/MC2-15 (io), 44 I/O/MC2-17 (io)
part C pins: 11 I/O/MC3-2 (io), 12 I/O/MC3-5 (io), 13 I/O/MC3-8 (io), 14 I/O/MC3-9 (io), 18 I/O/MC3-11 (io), 19 I/O/MC3-14 (io), 20 I/O/MC3-15 (io), 22 I/O/MC3-17 (io)
part D pins: 24 I/O/MC4-2 (io), 25 I/O/MC4-5 (io), 26 I/O/MC4-8 (io), 27 I/O/MC4-9 (io), 28 I/O/MC4-11 (io), 29 I/O/MC4-14 (io), 33 I/O/MC4-15 (io), 34 I/O/MC4-17 (io)
part E pins: 15 TDI (in), 16 TMS (in), 17 TCK (in), 30 TDO (out)
part F pins: 21 VCCINT (power), 32 VCCIO (power), 41 VCCINT (power)
part G pins: 10 GND (power), 23 GND (power), 31 GND (power)
part A text: BANK 1
part B text: BANK 2
part C text: BANK 3
part D text: BANK 4

## XC9572-15PCG84C
designator U?
XC9500 5V, 72 Macrocell CPLD, 69 User I/Os, 84-Pin PLCC, Commercial Grade, Pb-Free; Published: 8-Sep-2006; LatestRevisionDate: 18-Nov-2009; LatestRevisionNote: Updated to family datasheet version 5.5 Jun-2007.; DatasheetVersion: ver4.3, Apr-2006; PackageVersion: ver1.2, Jun-2004; PackageReference: PCG84; Publisher: Altium Limited; PackageDescription: 84-Pin Plastic Leaded Chip Carrier (PCG84) - Pb-Free; Supplier 1: Digi-Key; Supplier Part Number 1: 122-1444-ND; Supplier 2: Farnell; Supplier Part Number 2: 1193231; Supplier 3: Newark; Supplier Part Number 3: 98K3381; Code_JEDEC: MS-047; Code_IPC: PLCC-84; ComponentLink1Description: XC9572 Datasheet; ComponentLink1URL: http://www.xilinx.com/support/documentation/data_sheets/ds065.pdf; ComponentLink2Description: PCG84 Package Drawing; ComponentLink2URL: http://www.xilinx.com/support/documentation/package_specs/pc84.pdf; ComponentLink3Description: XC9500 Documents; ComponentLink3URL: http://www.xilinx.com/support/documentation/xc9500.htm; ComponentLink4Description: Xilinx.com Home; ComponentLink4URL: http://www.xilinx.com
footprint PCG84_N (Leaded Chip Carrier, 84-Leads, Body 29.3x29.3mm, Pitch 1.27mm, IPC Medium Density)
footprint PCG84_L (Leaded Chip Carrier, 84-Leads, Body 29.3x29.3mm, Pitch 1.27mm, IPC High Density)
footprint PCG84_M (Leaded Chip Carrier, 84-Leads, Body 29.3x29.3mm, Pitch 1.27mm, IPC Low Density)
signal-integrity model XC9572_PCG84 (XC9500)
part A pins: 1 I/O/MC1-2 (io), 2 I/O/MC1-5 (io), 3 I/O/MC1-6 (io), 4 I/O/MC1-1 (io), 5 I/O/MC1-8 (io), 6 I/O/MC1-3 (io), 7 I/O/MC1-4 (io), 9 I/O/GCK1/MC1-9 (io), 10 I/O/GCK2/MC1-11 (io), 11 I/O/MC1-7 (io), 12 I/O/GCK3/MC1-14 (io), 13 I/O/MC1-10 (io), 14 I/O/MC1-15 (io), 15 I/O/MC1-17 (io), 18 I/O/MC1-12 (io), 20 I/O/MC1-13 (io), 23 I/O/MC1-16 (io), 24 I/O/MC1-18 (io)
part B pins: 63 I/O/MC2-1 (io), 67 I/O/MC2-3 (io), 68 I/O/MC2-4 (io), 69 I/O/MC2-2 (io), 70 I/O/MC2-5 (io), 71 I/O/MC2-6 (io), 72 I/O/MC2-8 (io), 74 I/O/GSR/MC2-9 (io), 75 I/O/MC2-10 (io), 76 I/O/GTS1/MC2-7 (io), 77 I/O/GTS2/MC2-11 (io), 79 I/O/MC2-12 (io), 80 I/O/MC2-13 (io), 81 I/O/MC2-14 (io), 82 I/O/MC2-16 (io), 83 I/O/MC2-15 (io), 84 I/O/MC2-17 (io)
part C pins: 17 I/O/MC3-2 (io), 19 I/O/MC3-5 (io), 21 I/O/MC3-8 (io), 25 I/O/MC3-1 (io), 26 I/O/MC3-9 (io), 31 I/O/MC3-3 (io), 32 I/O/MC3-4 (io), 33 I/O/MC3-11 (io), 34 I/O/MC3-6 (io), 35 I/O/MC3-7 (io), 36 I/O/MC3-14 (io), 37 I/O/MC3-15 (io), 39 I/O/MC3-17 (io), 40 I/O/MC3-10 (io), 41 I/O/MC3-12 (io), 43 I/O/MC3-13 (io), 45 I/O/MC3-16 (io)
part D pins: 44 I/O/MC4-2 (io), 46 I/O/MC4-1 (io), 47 I/O/MC4-5 (io), 48 I/O/MC4-8 (io), 50 I/O/MC4-9 (io), 51 I/O/MC4-3 (io), 52 I/O/MC4-4 (io), 53 I/O/MC4-11 (io), 54 I/O/MC4-6 (io), 55 I/O/MC4-7 (io), 56 I/O/MC4-14 (io), 57 I/O/MC4-10 (io), 58 I/O/MC4-12 (io), 61 I/O/MC4-13 (io), 62 I/O/MC4-16 (io), 65 I/O/MC4-15 (io), 66 I/O/MC4-17 (io)
part E pins: 28 TDI (in), 29 TMS (in), 30 TCK (in), 59 TDO (out)
part F pins: 22 VCCIO (power), 38 VCCINT (power), 64 VCCIO (power), 73 VCCINT (power), 78 VCCINT (power)
part G pins: 8 GND (power), 16 GND (power), 27 GND (power), 42 GND (power), 49 GND (power), 60 GND (power)
part A text: BANK 1
part B text: BANK 2
part C text: BANK 3
part D text: BANK 4

## XC9572-15PCG84I
designator U?
XC9500 5V, 72 Macrocell CPLD, 69 User I/Os, 84-Pin PLCC, Industrial Grade, Pb-Free; Published: 8-Sep-2006; LatestRevisionDate: 18-Nov-2009; LatestRevisionNote: Updated to family datasheet version 5.5 Jun-2007.; DatasheetVersion: ver4.3, Apr-2006; PackageVersion: ver1.2, Jun-2004; PackageReference: PCG84; Publisher: Altium Limited; PackageDescription: 84-Pin Plastic Leaded Chip Carrier (PCG84) - Pb-Free; Code_JEDEC: MS-047; Code_IPC: PLCC-84; ComponentLink1Description: XC9572 Datasheet; ComponentLink1URL: http://www.xilinx.com/support/documentation/data_sheets/ds065.pdf; ComponentLink2Description: PCG84 Package Drawing; ComponentLink2URL: http://www.xilinx.com/support/documentation/package_specs/pc84.pdf; ComponentLink3Description: XC9500 Documents; ComponentLink3URL: http://www.xilinx.com/support/documentation/xc9500.htm; ComponentLink4Description: Xilinx.com Home; ComponentLink4URL: http://www.xilinx.com
footprint PCG84_N (Leaded Chip Carrier, 84-Leads, Body 29.3x29.3mm, Pitch 1.27mm, IPC Medium Density)
footprint PCG84_L (Leaded Chip Carrier, 84-Leads, Body 29.3x29.3mm, Pitch 1.27mm, IPC High Density)
footprint PCG84_M (Leaded Chip Carrier, 84-Leads, Body 29.3x29.3mm, Pitch 1.27mm, IPC Low Density)
signal-integrity model XC9572_PCG84 (XC9500)
part A pins: 1 I/O/MC1-2 (io), 2 I/O/MC1-5 (io), 3 I/O/MC1-6 (io), 4 I/O/MC1-1 (io), 5 I/O/MC1-8 (io), 6 I/O/MC1-3 (io), 7 I/O/MC1-4 (io), 9 I/O/GCK1/MC1-9 (io), 10 I/O/GCK2/MC1-11 (io), 11 I/O/MC1-7 (io), 12 I/O/GCK3/MC1-14 (io), 13 I/O/MC1-10 (io), 14 I/O/MC1-15 (io), 15 I/O/MC1-17 (io), 18 I/O/MC1-12 (io), 20 I/O/MC1-13 (io), 23 I/O/MC1-16 (io), 24 I/O/MC1-18 (io)
part B pins: 63 I/O/MC2-1 (io), 67 I/O/MC2-3 (io), 68 I/O/MC2-4 (io), 69 I/O/MC2-2 (io), 70 I/O/MC2-5 (io), 71 I/O/MC2-6 (io), 72 I/O/MC2-8 (io), 74 I/O/GSR/MC2-9 (io), 75 I/O/MC2-10 (io), 76 I/O/GTS1/MC2-7 (io), 77 I/O/GTS2/MC2-11 (io), 79 I/O/MC2-12 (io), 80 I/O/MC2-13 (io), 81 I/O/MC2-14 (io), 82 I/O/MC2-16 (io), 83 I/O/MC2-15 (io), 84 I/O/MC2-17 (io)
part C pins: 17 I/O/MC3-2 (io), 19 I/O/MC3-5 (io), 21 I/O/MC3-8 (io), 25 I/O/MC3-1 (io), 26 I/O/MC3-9 (io), 31 I/O/MC3-3 (io), 32 I/O/MC3-4 (io), 33 I/O/MC3-11 (io), 34 I/O/MC3-6 (io), 35 I/O/MC3-7 (io), 36 I/O/MC3-14 (io), 37 I/O/MC3-15 (io), 39 I/O/MC3-17 (io), 40 I/O/MC3-10 (io), 41 I/O/MC3-12 (io), 43 I/O/MC3-13 (io), 45 I/O/MC3-16 (io)
part D pins: 44 I/O/MC4-2 (io), 46 I/O/MC4-1 (io), 47 I/O/MC4-5 (io), 48 I/O/MC4-8 (io), 50 I/O/MC4-9 (io), 51 I/O/MC4-3 (io), 52 I/O/MC4-4 (io), 53 I/O/MC4-11 (io), 54 I/O/MC4-6 (io), 55 I/O/MC4-7 (io), 56 I/O/MC4-14 (io), 57 I/O/MC4-10 (io), 58 I/O/MC4-12 (io), 61 I/O/MC4-13 (io), 62 I/O/MC4-16 (io), 65 I/O/MC4-15 (io), 66 I/O/MC4-17 (io)
part E pins: 28 TDI (in), 29 TMS (in), 30 TCK (in), 59 TDO (out)
part F pins: 22 VCCIO (power), 38 VCCINT (power), 64 VCCIO (power), 73 VCCINT (power), 78 VCCINT (power)
part G pins: 8 GND (power), 16 GND (power), 27 GND (power), 42 GND (power), 49 GND (power), 60 GND (power)
part A text: BANK 1
part B text: BANK 2
part C text: BANK 3
part D text: BANK 4

## XC9572-15PQ100C
designator U?
XC9500 5V, 72 Macrocell CPLD, 72 User I/Os, 100-Pin PQFP, Commercial Grade; Published: 8-Jun-2000; LatestRevisionDate: 18-Nov-2009; LatestRevisionNote: Updated to family datasheet version 5.5 Jun-2007.; DatasheetVersion: ver4.3, Apr-2006; PackageVersion: ver1.2, Oct-2002; PackageReference: PQ100; Publisher: Altium Limited; PackageDescription: 100-Pin Plastic Quad Flat Pack (PQ100); Supplier 1: Digi-Key; Supplier Part Number 1: 122-1395-ND; Supplier 2: Farnell; Supplier Part Number 2: 3849077; Code_IPC: QFP65P1720X2320-100; ComponentLink1Description: XC9572 Datasheet; ComponentLink1URL: http://www.xilinx.com/support/documentation/data_sheets/ds065.pdf; ComponentLink2Description: PQ100 Package Drawing; ComponentLink2URL: http://www.xilinx.com/support/documentation/package_specs/pq100.pdf; ComponentLink3Description: XC9500 Documents; ComponentLink3URL: http://www.xilinx.com/support/documentation/xc9500.htm; ComponentLink4Description: Xilinx.com Home; ComponentLink4URL: http://www.xilinx.com
footprint PQ100_N (QFP, 100-Leads, Body 20x14mm, Pitch 0.65mm, IPC Medium Density)
footprint PQ100_L (QFP, 100-Leads, Body 20x14mm, Pitch 0.65mm, IPC High Density)
footprint PQ100_M (QFP, 100-Leads, Body 20x14mm, Pitch 0.65mm, IPC Low Density)
signal-integrity model XC9572_PQ100 (XC9500)
part A pins: 15 I/O/MC1-2 (io), 16 I/O/MC1-5 (io), 17 I/O/MC1-6 (io), 18 I/O/MC1-1 (io), 19 I/O/MC1-8 (io), 20 I/O/MC1-3 (io), 22 I/O/MC1-4 (io), 24 I/O/GCK1/MC1-9 (io), 25 I/O/GCK2/MC1-11 (io), 27 I/O/MC1-7 (io), 29 I/O/GCK3/MC1-14 (io), 30 I/O/MC1-10 (io), 31 I/O/MC1-15 (io), 32 I/O/MC1-17 (io), 35 I/O/MC1-12 (io), 38 I/O/MC1-13 (io), 41 I/O/MC1-16 (io), 42 I/O/MC1-18 (io)
part B pins: 1 I/O/GSR/MC2-9 (io), 3 I/O/MC2-10 (io), 5 I/O/GTS1/MC2-7 (io), 6 I/O/GTS2/MC2-11 (io), 8 I/O/MC2-12 (io), 10 I/O/MC2-13 (io), 11 I/O/MC2-14 (io), 12 I/O/MC2-16 (io), 13 I/O/MC2-15 (io), 14 I/O/MC2-17 (io), 89 I/O/MC2-1 (io), 93 I/O/MC2-3 (io), 94 I/O/MC2-18 (io), 95 I/O/MC2-4 (io), 96 I/O/MC2-2 (io), 97 I/O/MC2-5 (io), 98 I/O/MC2-6 (io), 99 I/O/MC2-8 (io)
part C pins: 34 I/O/MC3-2 (io), 37 I/O/MC3-5 (io), 39 I/O/MC3-8 (io), 43 I/O/MC3-1 (io), 44 I/O/MC3-9 (io), 51 I/O/MC3-3 (io), 52 I/O/MC3-4 (io), 54 I/O/MC3-11 (io), 55 I/O/MC3-6 (io), 56 I/O/MC3-7 (io), 57 I/O/MC3-14 (io), 58 I/O/MC3-15 (io), 60 I/O/MC3-17 (io), 61 I/O/MC3-18 (io), 62 I/O/MC3-10 (io), 63 I/O/MC3-12 (io), 65 I/O/MC3-13 (io), 67 I/O/MC3-16 (io)
part D pins: 66 I/O/MC4-2 (io), 68 I/O/MC4-1 (io), 69 I/O/MC4-5 (io), 70 I/O/MC4-8 (io), 72 I/O/MC4-9 (io), 73 I/O/MC4-3 (io), 74 I/O/MC4-4 (io), 76 I/O/MC4-11 (io), 78 I/O/MC4-6 (io), 79 I/O/MC4-7 (io), 80 I/O/MC4-14 (io), 81 I/O/MC4-18 (io), 83 I/O/MC4-10 (io), 84 I/O/MC4-12 (io), 87 I/O/MC4-13 (io), 88 I/O/MC4-16 (io), 91 I/O/MC4-15 (io), 92 I/O/MC4-17 (io)
part E pins: 47 TDI (in), 49 TMS (in), 50 TCK (in), 85 TDO (out)
part F pins: 7 VCCINT (power), 28 VCCIO (power), 40 VCCIO (power), 53 VCCIO (power), 59 VCCINT (power), 90 VCCIO (power), 100 VCCINT (power)
part G pins: 2 GND (power), 23 GND (power), 33 GND (power), 46 GND (power), 64 GND (power), 71 GND (power), 77 GND (power), 86 GND (power)
part H pins: 4 NC, 9 NC, 21 NC, 26 NC, 36 NC, 45 NC, 48 NC, 75 NC, 82 NC
part A text: BANK 1
part B text: BANK 2
part C text: BANK 3
part D text: BANK 4

## XC9572-15PQ100I
designator U?
XC9500 5V, 72 Macrocell CPLD, 72 User I/Os, 100-Pin PQFP, Industrial Grade; Published: 8-Jun-2000; LatestRevisionDate: 18-Nov-2009; LatestRevisionNote: Updated to family datasheet version 5.5 Jun-2007.; DatasheetVersion: ver4.3, Apr-2006; PackageVersion: ver1.2, Oct-2002; PackageReference: PQ100; Publisher: Altium Limited; PackageDescription: 100-Pin Plastic Quad Flat Pack (PQ100); Supplier 1: Digi-Key; Supplier Part Number 1: XC9572-15PQ100I-ND; Code_IPC: QFP65P1720X2320-100; ComponentLink1Description: XC9572 Datasheet; ComponentLink1URL: http://www.xilinx.com/support/documentation/data_sheets/ds065.pdf; ComponentLink2Description: PQ100 Package Drawing; ComponentLink2URL: http://www.xilinx.com/support/documentation/package_specs/pq100.pdf; ComponentLink3Description: XC9500 Documents; ComponentLink3URL: http://www.xilinx.com/support/documentation/xc9500.htm; ComponentLink4Description: Xilinx.com Home; ComponentLink4URL: http://www.xilinx.com
footprint PQ100_N (QFP, 100-Leads, Body 20x14mm, Pitch 0.65mm, IPC Medium Density)
footprint PQ100_L (QFP, 100-Leads, Body 20x14mm, Pitch 0.65mm, IPC High Density)
footprint PQ100_M (QFP, 100-Leads, Body 20x14mm, Pitch 0.65mm, IPC Low Density)
signal-integrity model XC9572_PQ100 (XC9500)
part A pins: 15 I/O/MC1-2 (io), 16 I/O/MC1-5 (io), 17 I/O/MC1-6 (io), 18 I/O/MC1-1 (io), 19 I/O/MC1-8 (io), 20 I/O/MC1-3 (io), 22 I/O/MC1-4 (io), 24 I/O/GCK1/MC1-9 (io), 25 I/O/GCK2/MC1-11 (io), 27 I/O/MC1-7 (io), 29 I/O/GCK3/MC1-14 (io), 30 I/O/MC1-10 (io), 31 I/O/MC1-15 (io), 32 I/O/MC1-17 (io), 35 I/O/MC1-12 (io), 38 I/O/MC1-13 (io), 41 I/O/MC1-16 (io), 42 I/O/MC1-18 (io)
part B pins: 1 I/O/GSR/MC2-9 (io), 3 I/O/MC2-10 (io), 5 I/O/GTS1/MC2-7 (io), 6 I/O/GTS2/MC2-11 (io), 8 I/O/MC2-12 (io), 10 I/O/MC2-13 (io), 11 I/O/MC2-14 (io), 12 I/O/MC2-16 (io), 13 I/O/MC2-15 (io), 14 I/O/MC2-17 (io), 89 I/O/MC2-1 (io), 93 I/O/MC2-3 (io), 94 I/O/MC2-18 (io), 95 I/O/MC2-4 (io), 96 I/O/MC2-2 (io), 97 I/O/MC2-5 (io), 98 I/O/MC2-6 (io), 99 I/O/MC2-8 (io)
part C pins: 34 I/O/MC3-2 (io), 37 I/O/MC3-5 (io), 39 I/O/MC3-8 (io), 43 I/O/MC3-1 (io), 44 I/O/MC3-9 (io), 51 I/O/MC3-3 (io), 52 I/O/MC3-4 (io), 54 I/O/MC3-11 (io), 55 I/O/MC3-6 (io), 56 I/O/MC3-7 (io), 57 I/O/MC3-14 (io), 58 I/O/MC3-15 (io), 60 I/O/MC3-17 (io), 61 I/O/MC3-18 (io), 62 I/O/MC3-10 (io), 63 I/O/MC3-12 (io), 65 I/O/MC3-13 (io), 67 I/O/MC3-16 (io)
part D pins: 66 I/O/MC4-2 (io), 68 I/O/MC4-1 (io), 69 I/O/MC4-5 (io), 70 I/O/MC4-8 (io), 72 I/O/MC4-9 (io), 73 I/O/MC4-3 (io), 74 I/O/MC4-4 (io), 76 I/O/MC4-11 (io), 78 I/O/MC4-6 (io), 79 I/O/MC4-7 (io), 80 I/O/MC4-14 (io), 81 I/O/MC4-18 (io), 83 I/O/MC4-10 (io), 84 I/O/MC4-12 (io), 87 I/O/MC4-13 (io), 88 I/O/MC4-16 (io), 91 I/O/MC4-15 (io), 92 I/O/MC4-17 (io)
part E pins: 47 TDI (in), 49 TMS (in), 50 TCK (in), 85 TDO (out)
part F pins: 7 VCCINT (power), 28 VCCIO (power), 40 VCCIO (power), 53 VCCIO (power), 59 VCCINT (power), 90 VCCIO (power), 100 VCCINT (power)
part G pins: 2 GND (power), 23 GND (power), 33 GND (power), 46 GND (power), 64 GND (power), 71 GND (power), 77 GND (power), 86 GND (power)
part H pins: 4 NC, 9 NC, 21 NC, 26 NC, 36 NC, 45 NC, 48 NC, 75 NC, 82 NC
part A text: BANK 1
part B text: BANK 2
part C text: BANK 3
part D text: BANK 4

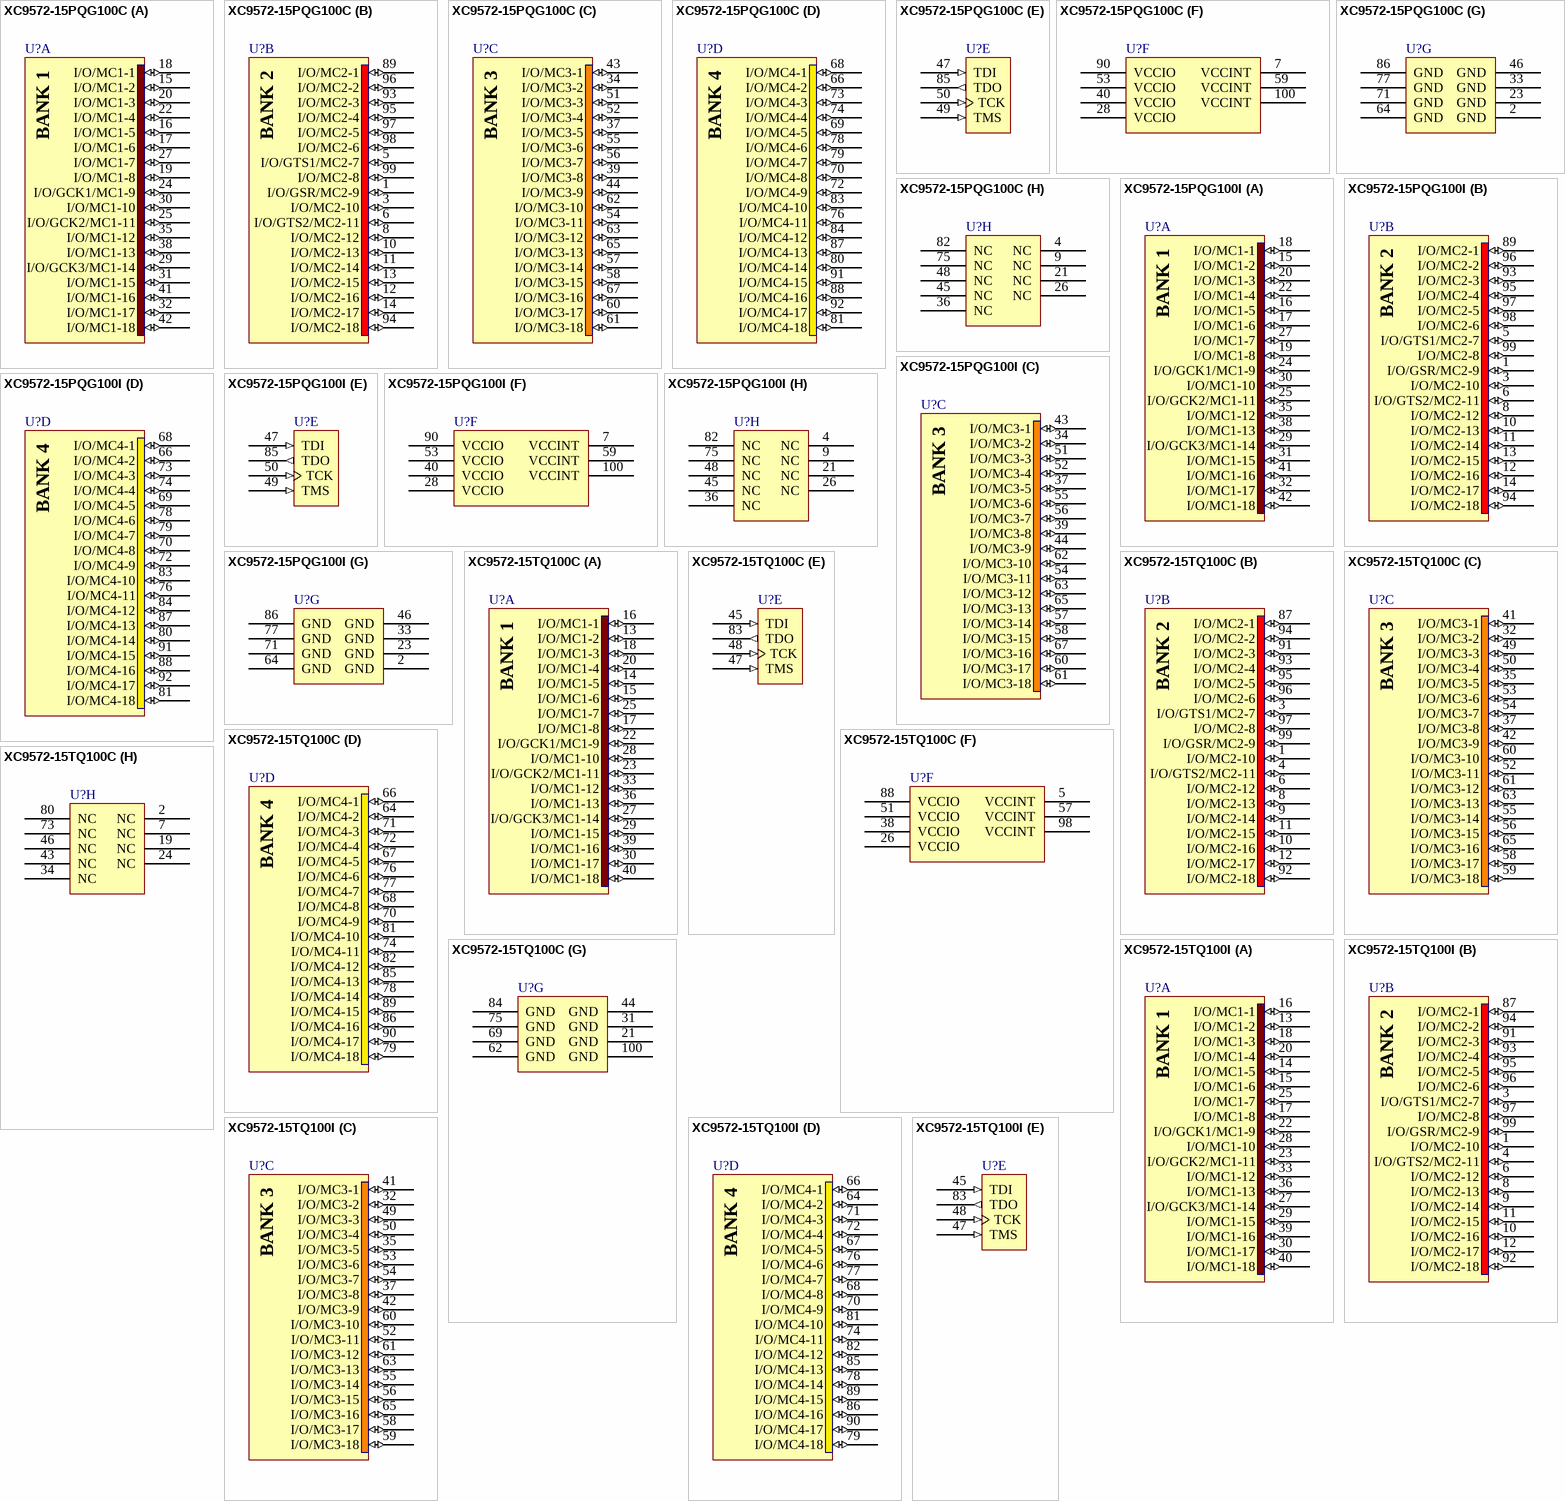
[diagram p17: symbols XC9572-15PQG100C to XC9572-15TQ100I]

## XC9572-15PQG100C
designator U?
XC9500 5V, 72 Macrocell CPLD, 72 User I/Os, 100-Pin PQFP, Commercial Grade, Pb-Free; Published: 8-Sep-2006; LatestRevisionDate: 18-Nov-2009; LatestRevisionNote: Updated to family datasheet version 5.5 Jun-2007.; DatasheetVersion: ver4.3, Apr-2006; PackageVersion: ver1.2, Oct-2002; PackageReference: PQG100; Publisher: Altium Limited; PackageDescription: 100-Pin Plastic Quad Flat Pack (PQG100) - Pb-Free; Supplier 1: Digi-Key; Supplier Part Number 1: 122-1445-ND; Code_IPC: QFP65P1720X2320-100; ComponentLink1Description: XC9572 Datasheet; ComponentLink1URL: http://www.xilinx.com/support/documentation/data_sheets/ds065.pdf; ComponentLink2Description: PQG100 Package Drawing; ComponentLink2URL: http://www.xilinx.com/support/documentation/package_specs/pq100.pdf; ComponentLink3Description: XC9500 Documents; ComponentLink3URL: http://www.xilinx.com/support/documentation/xc9500.htm; ComponentLink4Description: Xilinx.com Home; ComponentLink4URL: http://www.xilinx.com
footprint PQG100_N (QFP, 100-Leads, Body 20x14mm, Pitch 0.65mm, IPC Medium Density)
footprint PQG100_L (QFP, 100-Leads, Body 20x14mm, Pitch 0.65mm, IPC High Density)
footprint PQG100_M (QFP, 100-Leads, Body 20x14mm, Pitch 0.65mm, IPC Low Density)
signal-integrity model XC9572_PQG100 (XC9500)
part A pins: 15 I/O/MC1-2 (io), 16 I/O/MC1-5 (io), 17 I/O/MC1-6 (io), 18 I/O/MC1-1 (io), 19 I/O/MC1-8 (io), 20 I/O/MC1-3 (io), 22 I/O/MC1-4 (io), 24 I/O/GCK1/MC1-9 (io), 25 I/O/GCK2/MC1-11 (io), 27 I/O/MC1-7 (io), 29 I/O/GCK3/MC1-14 (io), 30 I/O/MC1-10 (io), 31 I/O/MC1-15 (io), 32 I/O/MC1-17 (io), 35 I/O/MC1-12 (io), 38 I/O/MC1-13 (io), 41 I/O/MC1-16 (io), 42 I/O/MC1-18 (io)
part B pins: 1 I/O/GSR/MC2-9 (io), 3 I/O/MC2-10 (io), 5 I/O/GTS1/MC2-7 (io), 6 I/O/GTS2/MC2-11 (io), 8 I/O/MC2-12 (io), 10 I/O/MC2-13 (io), 11 I/O/MC2-14 (io), 12 I/O/MC2-16 (io), 13 I/O/MC2-15 (io), 14 I/O/MC2-17 (io), 89 I/O/MC2-1 (io), 93 I/O/MC2-3 (io), 94 I/O/MC2-18 (io), 95 I/O/MC2-4 (io), 96 I/O/MC2-2 (io), 97 I/O/MC2-5 (io), 98 I/O/MC2-6 (io), 99 I/O/MC2-8 (io)
part C pins: 34 I/O/MC3-2 (io), 37 I/O/MC3-5 (io), 39 I/O/MC3-8 (io), 43 I/O/MC3-1 (io), 44 I/O/MC3-9 (io), 51 I/O/MC3-3 (io), 52 I/O/MC3-4 (io), 54 I/O/MC3-11 (io), 55 I/O/MC3-6 (io), 56 I/O/MC3-7 (io), 57 I/O/MC3-14 (io), 58 I/O/MC3-15 (io), 60 I/O/MC3-17 (io), 61 I/O/MC3-18 (io), 62 I/O/MC3-10 (io), 63 I/O/MC3-12 (io), 65 I/O/MC3-13 (io), 67 I/O/MC3-16 (io)
part D pins: 66 I/O/MC4-2 (io), 68 I/O/MC4-1 (io), 69 I/O/MC4-5 (io), 70 I/O/MC4-8 (io), 72 I/O/MC4-9 (io), 73 I/O/MC4-3 (io), 74 I/O/MC4-4 (io), 76 I/O/MC4-11 (io), 78 I/O/MC4-6 (io), 79 I/O/MC4-7 (io), 80 I/O/MC4-14 (io), 81 I/O/MC4-18 (io), 83 I/O/MC4-10 (io), 84 I/O/MC4-12 (io), 87 I/O/MC4-13 (io), 88 I/O/MC4-16 (io), 91 I/O/MC4-15 (io), 92 I/O/MC4-17 (io)
part E pins: 47 TDI (in), 49 TMS (in), 50 TCK (in), 85 TDO (out)
part F pins: 7 VCCINT (power), 28 VCCIO (power), 40 VCCIO (power), 53 VCCIO (power), 59 VCCINT (power), 90 VCCIO (power), 100 VCCINT (power)
part G pins: 2 GND (power), 23 GND (power), 33 GND (power), 46 GND (power), 64 GND (power), 71 GND (power), 77 GND (power), 86 GND (power)
part H pins: 4 NC, 9 NC, 21 NC, 26 NC, 36 NC, 45 NC, 48 NC, 75 NC, 82 NC
part A text: BANK 1
part B text: BANK 2
part C text: BANK 3
part D text: BANK 4

## XC9572-15PQG100I
designator U?
XC9500 5V, 72 Macrocell CPLD, 72 User I/Os, 100-Pin PQFP, Industrial Grade, Pb-Free; Published: 8-Sep-2006; LatestRevisionDate: 18-Nov-2009; LatestRevisionNote: Updated to family datasheet version 5.5 Jun-2007.; DatasheetVersion: ver4.3, Apr-2006; PackageVersion: ver1.2, Oct-2002; PackageReference: PQG100; Publisher: Altium Limited; PackageDescription: 100-Pin Plastic Quad Flat Pack (PQG100) - Pb-Free; Code_IPC: QFP65P1720X2320-100; ComponentLink1Description: XC9572 Datasheet; ComponentLink1URL: http://www.xilinx.com/support/documentation/data_sheets/ds065.pdf; ComponentLink2Description: PQG100 Package Drawing; ComponentLink2URL: http://www.xilinx.com/support/documentation/package_specs/pq100.pdf; ComponentLink3Description: XC9500 Documents; ComponentLink3URL: http://www.xilinx.com/support/documentation/xc9500.htm; ComponentLink4Description: Xilinx.com Home; ComponentLink4URL: http://www.xilinx.com
footprint PQG100_N (QFP, 100-Leads, Body 20x14mm, Pitch 0.65mm, IPC Medium Density)
footprint PQG100_L (QFP, 100-Leads, Body 20x14mm, Pitch 0.65mm, IPC High Density)
footprint PQG100_M (QFP, 100-Leads, Body 20x14mm, Pitch 0.65mm, IPC Low Density)
signal-integrity model XC9572_PQG100 (XC9500)
part A pins: 15 I/O/MC1-2 (io), 16 I/O/MC1-5 (io), 17 I/O/MC1-6 (io), 18 I/O/MC1-1 (io), 19 I/O/MC1-8 (io), 20 I/O/MC1-3 (io), 22 I/O/MC1-4 (io), 24 I/O/GCK1/MC1-9 (io), 25 I/O/GCK2/MC1-11 (io), 27 I/O/MC1-7 (io), 29 I/O/GCK3/MC1-14 (io), 30 I/O/MC1-10 (io), 31 I/O/MC1-15 (io), 32 I/O/MC1-17 (io), 35 I/O/MC1-12 (io), 38 I/O/MC1-13 (io), 41 I/O/MC1-16 (io), 42 I/O/MC1-18 (io)
part B pins: 1 I/O/GSR/MC2-9 (io), 3 I/O/MC2-10 (io), 5 I/O/GTS1/MC2-7 (io), 6 I/O/GTS2/MC2-11 (io), 8 I/O/MC2-12 (io), 10 I/O/MC2-13 (io), 11 I/O/MC2-14 (io), 12 I/O/MC2-16 (io), 13 I/O/MC2-15 (io), 14 I/O/MC2-17 (io), 89 I/O/MC2-1 (io), 93 I/O/MC2-3 (io), 94 I/O/MC2-18 (io), 95 I/O/MC2-4 (io), 96 I/O/MC2-2 (io), 97 I/O/MC2-5 (io), 98 I/O/MC2-6 (io), 99 I/O/MC2-8 (io)
part C pins: 34 I/O/MC3-2 (io), 37 I/O/MC3-5 (io), 39 I/O/MC3-8 (io), 43 I/O/MC3-1 (io), 44 I/O/MC3-9 (io), 51 I/O/MC3-3 (io), 52 I/O/MC3-4 (io), 54 I/O/MC3-11 (io), 55 I/O/MC3-6 (io), 56 I/O/MC3-7 (io), 57 I/O/MC3-14 (io), 58 I/O/MC3-15 (io), 60 I/O/MC3-17 (io), 61 I/O/MC3-18 (io), 62 I/O/MC3-10 (io), 63 I/O/MC3-12 (io), 65 I/O/MC3-13 (io), 67 I/O/MC3-16 (io)
part D pins: 66 I/O/MC4-2 (io), 68 I/O/MC4-1 (io), 69 I/O/MC4-5 (io), 70 I/O/MC4-8 (io), 72 I/O/MC4-9 (io), 73 I/O/MC4-3 (io), 74 I/O/MC4-4 (io), 76 I/O/MC4-11 (io), 78 I/O/MC4-6 (io), 79 I/O/MC4-7 (io), 80 I/O/MC4-14 (io), 81 I/O/MC4-18 (io), 83 I/O/MC4-10 (io), 84 I/O/MC4-12 (io), 87 I/O/MC4-13 (io), 88 I/O/MC4-16 (io), 91 I/O/MC4-15 (io), 92 I/O/MC4-17 (io)
part E pins: 47 TDI (in), 49 TMS (in), 50 TCK (in), 85 TDO (out)
part F pins: 7 VCCINT (power), 28 VCCIO (power), 40 VCCIO (power), 53 VCCIO (power), 59 VCCINT (power), 90 VCCIO (power), 100 VCCINT (power)
part G pins: 2 GND (power), 23 GND (power), 33 GND (power), 46 GND (power), 64 GND (power), 71 GND (power), 77 GND (power), 86 GND (power)
part H pins: 4 NC, 9 NC, 21 NC, 26 NC, 36 NC, 45 NC, 48 NC, 75 NC, 82 NC
part A text: BANK 1
part B text: BANK 2
part C text: BANK 3
part D text: BANK 4

## XC9572-15TQ100C
designator U?
XC9500 5V, 72 Macrocell CPLD, 72 User I/Os, 100-Pin TQFP, Commercial Grade; Published: 8-Jun-2000; LatestRevisionDate: 18-Nov-2009; LatestRevisionNote: Updated to family datasheet version 5.5 Jun-2007.; DatasheetVersion: ver4.3, Apr-2006; PackageVersion: ver1.2, Jun-2004; PackageReference: TQ100; Publisher: Altium Limited; PackageDescription: 100-Pin Thin Quad Flat Pack (TQ100); Supplier 1: Digi-Key; Supplier Part Number 1: XC9572-15TQ100C-ND; ComponentLink1Description: XC9572 Datasheet; ComponentLink1URL: http://www.xilinx.com/support/documentation/data_sheets/ds065.pdf; ComponentLink2Description: TQ100 Package Drawing; ComponentLink2URL: http://www.xilinx.com/support/documentation/package_specs/tq100.pdf; ComponentLink3Description: XC9500 Documents; ComponentLink3URL: http://www.xilinx.com/support/documentation/xc9500.htm; ComponentLink4Description: Xilinx.com Home; ComponentLink4URL: http://www.xilinx.com
footprint TQ100_N (Thin QFP, 100-Leads, Body 14x14mm, Pitch 0.5mm, IPC Medium Density)
footprint TQ100_L (Thin QFP, 100-Leads, Body 14x14mm, Pitch 0.5mm, IPC High Density)
footprint TQ100_M (Thin QFP, 100-Leads, Body 14x14mm, Pitch 0.5mm, IPC Low Density)
signal-integrity model XC9572_TQ100 (XC9500)
part A pins: 13 I/O/MC1-2 (io), 14 I/O/MC1-5 (io), 15 I/O/MC1-6 (io), 16 I/O/MC1-1 (io), 17 I/O/MC1-8 (io), 18 I/O/MC1-3 (io), 20 I/O/MC1-4 (io), 22 I/O/GCK1/MC1-9 (io), 23 I/O/GCK2/MC1-11 (io), 25 I/O/MC1-7 (io), 27 I/O/GCK3/MC1-14 (io), 28 I/O/MC1-10 (io), 29 I/O/MC1-15 (io), 30 I/O/MC1-17 (io), 33 I/O/MC1-12 (io), 36 I/O/MC1-13 (io), 39 I/O/MC1-16 (io), 40 I/O/MC1-18 (io)
part B pins: 1 I/O/MC2-10 (io), 3 I/O/GTS1/MC2-7 (io), 4 I/O/GTS2/MC2-11 (io), 6 I/O/MC2-12 (io), 8 I/O/MC2-13 (io), 9 I/O/MC2-14 (io), 10 I/O/MC2-16 (io), 11 I/O/MC2-15 (io), 12 I/O/MC2-17 (io), 87 I/O/MC2-1 (io), 91 I/O/MC2-3 (io), 92 I/O/MC2-18 (io), 93 I/O/MC2-4 (io), 94 I/O/MC2-2 (io), 95 I/O/MC2-5 (io), 96 I/O/MC2-6 (io), 97 I/O/MC2-8 (io), 99 I/O/GSR/MC2-9 (io)
part C pins: 32 I/O/MC3-2 (io), 35 I/O/MC3-5 (io), 37 I/O/MC3-8 (io), 41 I/O/MC3-1 (io), 42 I/O/MC3-9 (io), 49 I/O/MC3-3 (io), 50 I/O/MC3-4 (io), 52 I/O/MC3-11 (io), 53 I/O/MC3-6 (io), 54 I/O/MC3-7 (io), 55 I/O/MC3-14 (io), 56 I/O/MC3-15 (io), 58 I/O/MC3-17 (io), 59 I/O/MC3-18 (io), 60 I/O/MC3-10 (io), 61 I/O/MC3-12 (io), 63 I/O/MC3-13 (io), 65 I/O/MC3-16 (io)
part D pins: 64 I/O/MC4-2 (io), 66 I/O/MC4-1 (io), 67 I/O/MC4-5 (io), 68 I/O/MC4-8 (io), 70 I/O/MC4-9 (io), 71 I/O/MC4-3 (io), 72 I/O/MC4-4 (io), 74 I/O/MC4-11 (io), 76 I/O/MC4-6 (io), 77 I/O/MC4-7 (io), 78 I/O/MC4-14 (io), 79 I/O/MC4-18 (io), 81 I/O/MC4-10 (io), 82 I/O/MC4-12 (io), 85 I/O/MC4-13 (io), 86 I/O/MC4-16 (io), 89 I/O/MC4-15 (io), 90 I/O/MC4-17 (io)
part E pins: 45 TDI (in), 47 TMS (in), 48 TCK (in), 83 TDO (out)
part F pins: 5 VCCINT (power), 26 VCCIO (power), 38 VCCIO (power), 51 VCCIO (power), 57 VCCINT (power), 88 VCCIO (power), 98 VCCINT (power)
part G pins: 21 GND (power), 31 GND (power), 44 GND (power), 62 GND (power), 69 GND (power), 75 GND (power), 84 GND (power), 100 GND (power)
part H pins: 2 NC, 7 NC, 19 NC, 24 NC, 34 NC, 43 NC, 46 NC, 73 NC, 80 NC
part A text: BANK 1
part B text: BANK 2
part C text: BANK 3
part D text: BANK 4

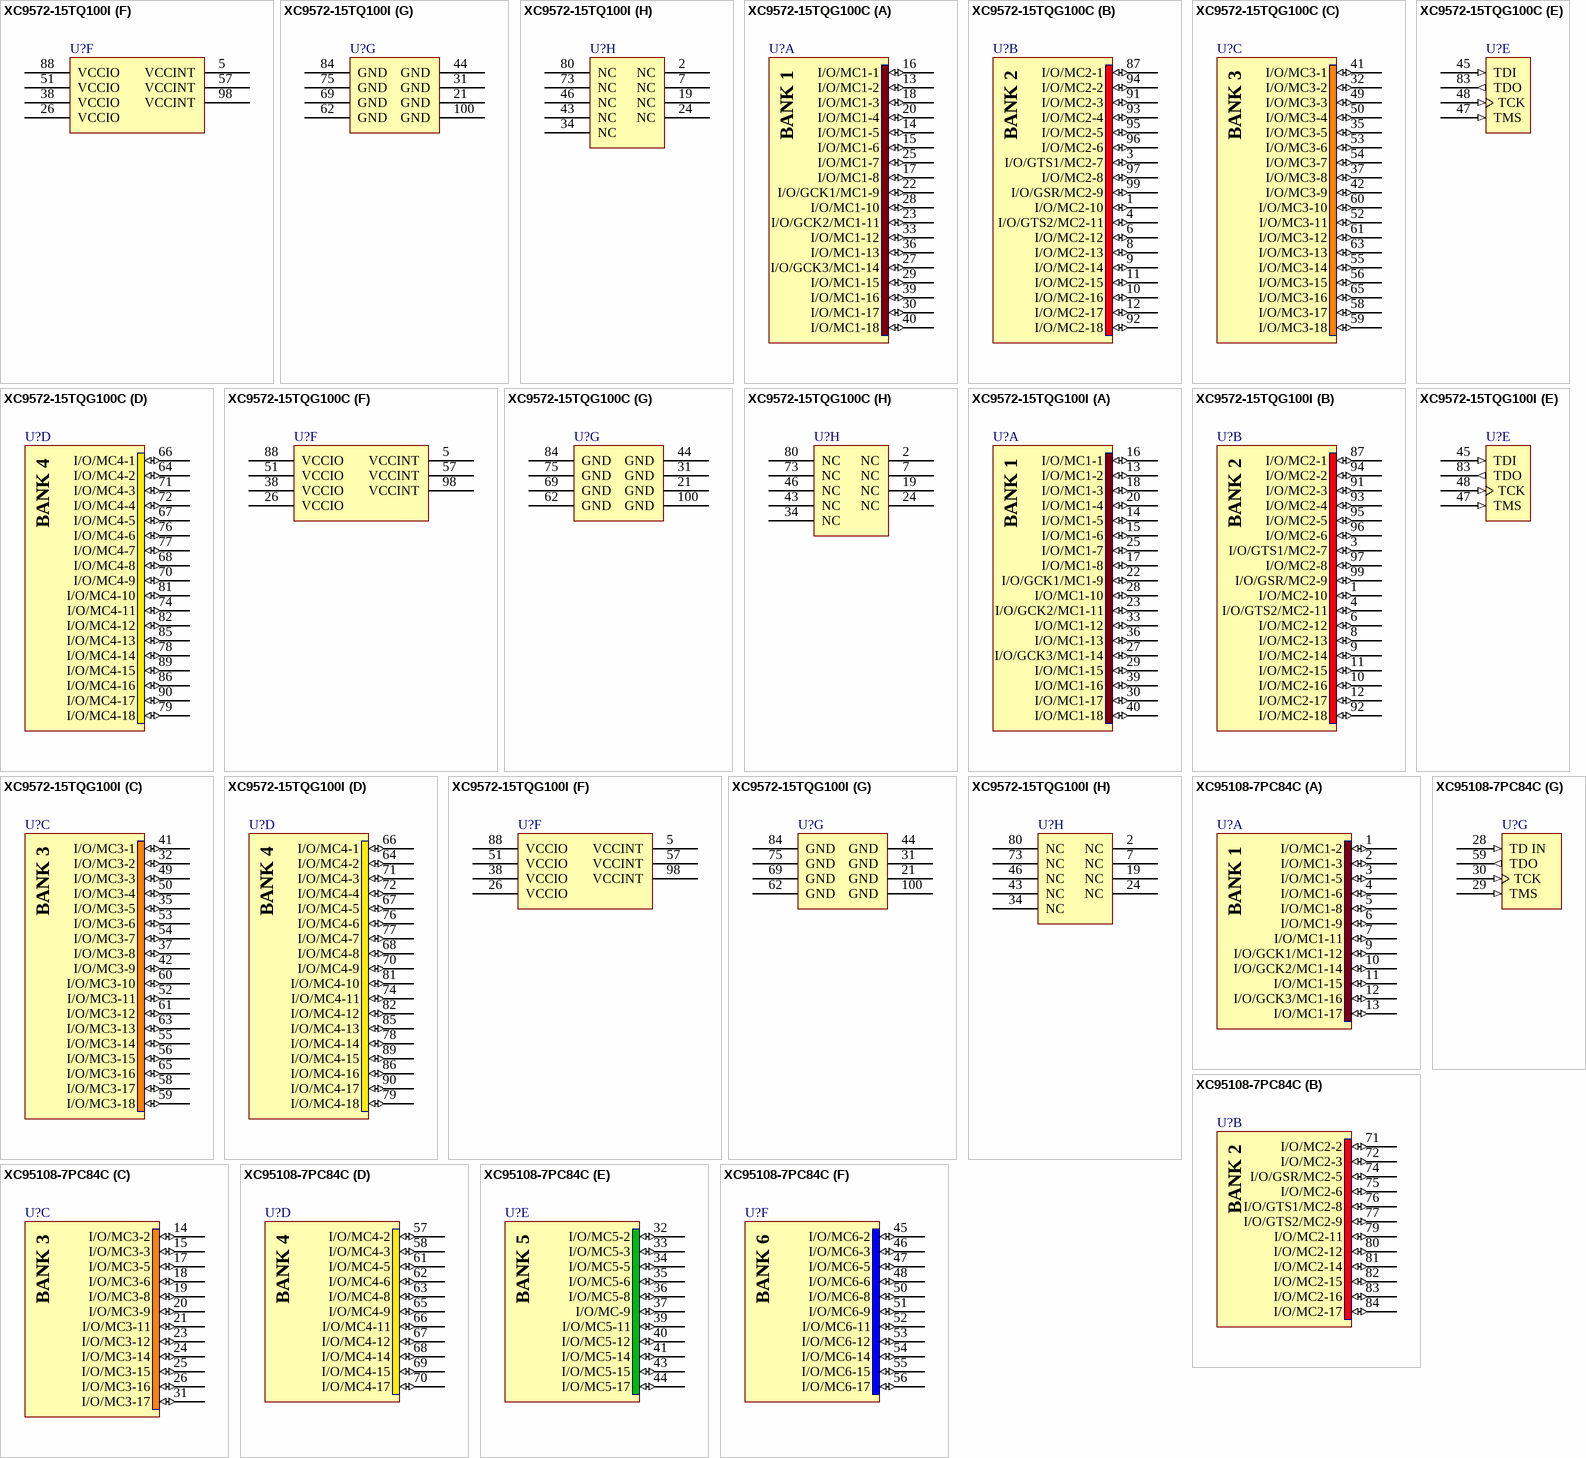
[diagram p18: symbols XC9572-15TQ100I to XC95108-7PC84C]